# Altium schematic symbol library STMicroelectronics STM32 F1.SchLib: 243 symbols (part 17 of 18)
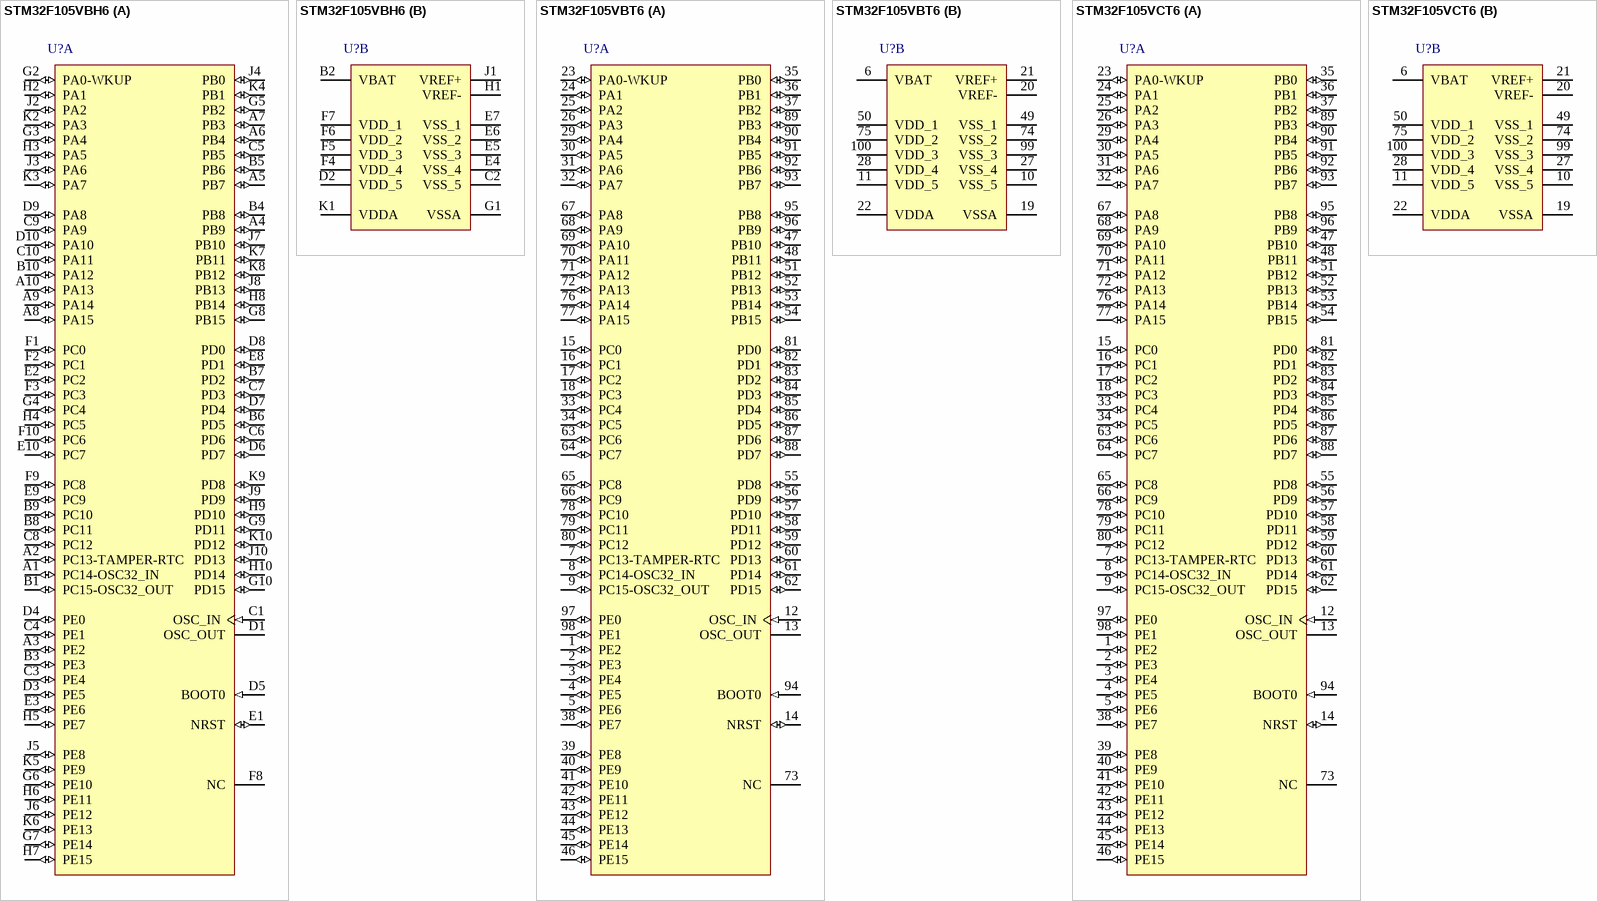
[diagram p58: symbols STM32F105VBH6 to STM32F105VCT6]

## STM32F105VBH6
designator U?
ARM Cortex-M3 32-bit MCU, 128 KB Flash, 64 KB Internal RAM, 80 I/Os, 100-pin LFBGA, -40 to 85 degC, Tray
footprint STM-LFBGA100 (BGA, 100-Balls, Body 10x10mm, Pitch 0.8mm)
part A pins: A1 PC14-OSC32_IN (io) "PC14-OSC32_IN/PC14/OSC32_IN", A2 PC13-TAMPER-RTC (io) "PC13-TAMPER-RTC/PC13/TAMPER-RTC", A3 PE2 (io) "PE2/TRACECK", A4 PB9 (io) "PB9/TIM4_CH4/I2C1_SDA/CAN1_TX", A5 PB7 (io) "PB7/I2C1_SDA/TIM4_CH2/USART1_RX", A6 PB4 (io) "PB4/NJTRST/SPI3_MISO/TIM3_CH1/SPI1_MISO", A7 PB3 (io) "PB3/JTDO/SPI3_SCK/I2S3_CK/TRACESWO/TIM2_CH2/SPI1_SCK", A8 PA15 (io) "PA15/JTDI/SPI3_NSS/I2S3_WS/TIM2_CH1_ETR/SPI1_NSS", A9 PA14 (io) "PA14/JTCK-SWCLK", A10 PA13 (io) "PA13/JTMS-SWDIO", B1 PC15-OSC32_OUT (io) "PC15-OSC32_OUT/PC15/OSC32_OUT", B3 PE3 (io) "PE3/TRACED0", B4 PB8 (io) "PB8/TIM4_CH3/ETH_MII_TXD3/I2C1_SCL/CAN1_RX", B5 PB6 (io) "PB6/I2C1_SCL/TIM4_CH1/USART1_TX/CAN2_TX", B6 PD5 (io) "PD5/USART2_TX", B7 PD2 (io) "PD2/TIM3_ETR/UART5_RX", B8 PC11 (io) "PC11/UART4_RX/USART3_RX/SPI3_MISO", B9 PC10 (io) "PC10/UART4_TX/USART3_TX/SPI3_SCK/I2S3_CK", B10 PA12 (io) "PA12/USART1_RTS/OTG_FS_DP/CAN1_TX/TIM1_ETR", C1 OSC_IN (in), C3 PE4 (io) "PE4/TRACED1", C4 PE1 (io), C5 PB5 (io) "PB5/I2C1_SMBA/SPI3_MOSI/ETH_MII_PPS_OUT/I2S3_SD/ETH_RMII_PPS_OUT/TIM3_CH2/SPI1_MOSI/CAN2_RX", C6 PD6 (io) "PD6/USART2_RX", C7 PD3 (io) "PD3/USART2_CTS", C8 PC12 (io) "PC12/UART5_TX/USART3_CK/SPI3_MOSI/I2S3_SD", C9 PA9 (io) "PA9/USART1_TX/TIM1_CH2/OTG_FS_VBUS", C10 PA11 (io) "PA11/USART1_CTS/CAN1_RX/TIM1_CH4/OTG_FS_DM", D1 OSC_OUT, D3 PE5 (io) "PE5/TRACED2", D4 PE0 (io) "PE0/TIM4_ETR", D5 BOOT0 (in), D6 PD7 (io) "PD7/USART2_CK", D7 PD4 (io) "PD4/USART2_RTS", D8 PD0 (io) "PD0/OSC_IN/CAN1_RX", D9 PA8 (io) "PA8/USART1_CK/OTG_FS_SOF/TIM1_CH1/MCO", D10 PA10 (io) "PA10/USART1_RX/TIM1_CH3/OTG_FS_ID", E1 NRST (io), E2 PC2 (io) "PC2/ADC12_IN12/ETH_MII_TXD2", E3 PE6 (io) "PE6/TRACED3", E8 PD1 (io) "PD1/OSC_OUT/CAN1_TX", E9 PC9 (io) "PC9/TIM3_CH4", E10 PC7 (io) "PC7/I2S3_MCK/TIM3_CH2", F1 PC0 (io) "PC0/ADC12_IN10", F2 PC1 (io) "PC1/ADC12_IN11/ETH_MII_MDC/ETH_RMII_MDC", F3 PC3 (io) "PC3/ADC12_IN13/ETH_MII_TX_CLK", F8 NC, F9 PC8 (io) "PC8/TIM3_CH3", F10 PC6 (io) "PC6/I2S2_MCK/TIM3_CH1", G2 PA0-WKUP (io) "PA0-WKUP/PA0/WKUP/USART2_CTS/ADC12_IN0/TIM2_CH1_ETR/TIM5_CH1/ETH_MII_CRS_WKUP", G3 PA4 (io) "PA4/SPI1_NSS/DAC_OUT1/USART2_CK/ADC12_IN4/SPI3_NSS/I2S3_WS", G4 PC4 (io) "PC4/ADC12_IN14/ETH_MII_RXD0/ETH_RMII_RXD0", G5 PB2 (io) "PB2/BOOT1", G6 PE10 (io) "PE10/TIM1_CH2N", G7 PE14 (io) "PE14/TIM1_CH4", G8 PB15 (io) "PB15/SPI2_MOSI/I2S2_SD/TIM1_CH3N", G9 PD11 (io) "PD11/USART3_CTS/ETH_MII_RXD2", G10 PD15 (io) "PD15/TIM4_CH4", H2 PA1 (io) "PA1/USART2_RTS/ADC12_IN1/TIM5_CH2/TIM2_CH2/ETH_MII_RX_CLK/ETH_RMII_REF_CLK", H3 PA5 (io) "PA5/SPI1_SCK/DAC_OUT2/ADC12_IN5", H4 PC5 (io) "PC5/ADC12_IN15/ETH_MII_RXD1/ETH_RMII_RXD1", H5 PE7 (io) "PE7/TIM1_ETR", H6 PE11 (io) "PE11/TIM1_CH2", H7 PE15 (io) "PE15/TIM1_BKIN", H8 PB14 (io) "PB14/SPI2_MISO/TIM1_CH2N/USART3_RTS", H9 PD10 (io) "PD10/USART3_CK/ETH_MII_RXD1/ETH_RMII_RXD1", H10 PD14 (io) "PD14/TIM4_CH3", J2 PA2 (io) "PA2/USART2_TX/TIM5_CH3/ADC12_IN2/TIM2_CH3/ETH_MII_MDIO/ETH_RMII_MDIO", J3 PA6 (io) "PA6/SPI1_MISO/ADC12_IN6/TIM3_CH1/TIM1_BKIN", J4 PB0 (io) "PB0/ADC12_IN8/TIM3_CH3/ETH_MII_RXD2/TIM1_CH2N", J5 PE8 (io) "PE8/TIM1_CH1N", J6 PE12 (io) "PE12/TIM1_CH3N", J7 PB10 (io) "PB10/I2C2_SCL/USART3_TX/ETH_MII_RX_ER/TIM2_CH3", J8 PB13 (io) "PB13/SPI2_SCK/I2S2_CK/USART3_CTS/TIM1_CH1N/CAN2_TX/ETH_MII_TXD1/ETH_RMII_TXD1", J9 PD9 (io) "PD9/USART3_RX/ETH_MII_RXD0/ETH_RMII_RXD0", J10 PD13 (io) "PD13/TIM4_CH2", K2 PA3 (io) "PA3/USART2_RX/TIM5_CH4/ADC12_IN3/TIM2_CH4/ETH_MII_COL", K3 PA7 (io) "PA7/SPI1_MOSI/ADC12_IN7/TIM3_CH2/ETH_MII_RX_DV/ETH_RMII_CRS_DV/TIM1_CH1N", K4 PB1 (io) "PB1/ADC12_IN9/TIM3_CH4/ETH_MII_RXD3/TIM1_CH3N", K5 PE9 (io) "PE9/TIM1_CH1", K6 PE13 (io) "PE13/TIM1_CH3", K7 PB11 (io) "PB11/I2C2_SDA/USART3_RX/ETH_MII_TX_EN/ETH_RMII_TX_EN/TIM2_CH4", K8 PB12 (io) "PB12/SPI2_NSS/I2S2_WS/I2C2_SMBA/USART3_CK/TIM1_BKIN/CAN2_RX/ETH_MII_TXD0/ETH_RMII_TXD0", K9 PD8 (io) "PD8/USART3_TX/ETH_MII_RX_DV/ETH_RMII_CRS_DV", K10 PD12 (io) "PD12/TIM4_CH1/USART3_RTS/ETH_MII_RXD3"
part B pins: B2 VBAT (power), C2 VSS_5 (power), D2 VDD_5 (power), E4 VSS_4 (power), E5 VSS_3 (power), E6 VSS_2 (power), E7 VSS_1 (power), F4 VDD_4 (power), F5 VDD_3 (power), F6 VDD_2 (power), F7 VDD_1 (power), G1 VSSA (power), H1 VREF- (power), J1 VREF+ (power), K1 VDDA (power)

## STM32F105VBT6
designator U?
ARM Cortex-M3 32-bit MCU, 128 KB Flash, 64 KB Internal RAM, 80 I/Os, 100-pin LQFP, -40 to 85 degC, Tray
footprint STM-LQFP100_N (Thin QFP, 100-Leads, Body 14x14mm, Pitch 0.5mm, IPC Medium Density)
footprint STM-LQFP100_L (Thin QFP, 100-Leads, Body 14x14mm, Pitch 0.5mm, IPC High Density)
footprint STM-LQFP100_M (Thin QFP, 100-Leads, Body 14x14mm, Pitch 0.5mm, IPC Low Density)
footprint STM-LQFP100_V (Thin QFP, 100-Leads, Body 14x14mm, Pitch 0.5mm, ST Recommended)
part A pins: 1 PE2 (io) "PE2/TRACECK", 2 PE3 (io) "PE3/TRACED0", 3 PE4 (io) "PE4/TRACED1", 4 PE5 (io) "PE5/TRACED2", 5 PE6 (io) "PE6/TRACED3", 7 PC13-TAMPER-RTC (io) "PC13-TAMPER-RTC/PC13/TAMPER-RTC", 8 PC14-OSC32_IN (io) "PC14-OSC32_IN/PC14/OSC32_IN", 9 PC15-OSC32_OUT (io) "PC15-OSC32_OUT/PC15/OSC32_OUT", 12 OSC_IN (in), 13 OSC_OUT, 14 NRST (io), 15 PC0 (io) "PC0/ADC12_IN10", 16 PC1 (io) "PC1/ADC12_IN11/ETH_MII_MDC/ETH_RMII_MDC", 17 PC2 (io) "PC2/ADC12_IN12/ETH_MII_TXD2", 18 PC3 (io) "PC3/ADC12_IN13/ETH_MII_TX_CLK", 23 PA0-WKUP (io) "PA0-WKUP/PA0/WKUP/USART2_CTS/ADC12_IN0/TIM2_CH1_ETR/TIM5_CH1/ETH_MII_CRS_WKUP", 24 PA1 (io) "PA1/USART2_RTS/ADC12_IN1/TIM5_CH2/TIM2_CH2/ETH_MII_RX_CLK/ETH_RMII_REF_CLK", 25 PA2 (io) "PA2/USART2_TX/TIM5_CH3/ADC12_IN2/TIM2_CH3/ETH_MII_MDIO/ETH_RMII_MDIO", 26 PA3 (io) "PA3/USART2_RX/TIM5_CH4/ADC12_IN3/TIM2_CH4/ETH_MII_COL", 29 PA4 (io) "PA4/SPI1_NSS/DAC_OUT1/USART2_CK/ADC12_IN4/SPI3_NSS/I2S3_WS", 30 PA5 (io) "PA5/SPI1_SCK/DAC_OUT2/ADC12_IN5", 31 PA6 (io) "PA6/SPI1_MISO/ADC12_IN6/TIM3_CH1/TIM1_BKIN", 32 PA7 (io) "PA7/SPI1_MOSI/ADC12_IN7/TIM3_CH2/ETH_MII_RX_DV/ETH_RMII_CRS_DV/TIM1_CH1N", 33 PC4 (io) "PC4/ADC12_IN14/ETH_MII_RXD0/ETH_RMII_RXD0", 34 PC5 (io) "PC5/ADC12_IN15/ETH_MII_RXD1/ETH_RMII_RXD1", 35 PB0 (io) "PB0/ADC12_IN8/TIM3_CH3/ETH_MII_RXD2/TIM1_CH2N", 36 PB1 (io) "PB1/ADC12_IN9/TIM3_CH4/ETH_MII_RXD3/TIM1_CH3N", 37 PB2 (io) "PB2/BOOT1", 38 PE7 (io) "PE7/TIM1_ETR", 39 PE8 (io) "PE8/TIM1_CH1N", 40 PE9 (io) "PE9/TIM1_CH1", 41 PE10 (io) "PE10/TIM1_CH2N", 42 PE11 (io) "PE11/TIM1_CH2", 43 PE12 (io) "PE12/TIM1_CH3N", 44 PE13 (io) "PE13/TIM1_CH3", 45 PE14 (io) "PE14/TIM1_CH4", 46 PE15 (io) "PE15/TIM1_BKIN", 47 PB10 (io) "PB10/I2C2_SCL/USART3_TX/ETH_MII_RX_ER/TIM2_CH3", 48 PB11 (io) "PB11/I2C2_SDA/USART3_RX/ETH_MII_TX_EN/ETH_RMII_TX_EN/TIM2_CH4", 51 PB12 (io) "PB12/SPI2_NSS/I2S2_WS/I2C2_SMBA/USART3_CK/TIM1_BKIN/CAN2_RX/ETH_MII_TXD0/ETH_RMII_TXD0", 52 PB13 (io) "PB13/SPI2_SCK/I2S2_CK/USART3_CTS/TIM1_CH1N/CAN2_TX/ETH_MII_TXD1/ETH_RMII_TXD1", 53 PB14 (io) "PB14/SPI2_MISO/TIM1_CH2N/USART3_RTS", 54 PB15 (io) "PB15/SPI2_MOSI/I2S2_SD/TIM1_CH3N", 55 PD8 (io) "PD8/USART3_TX/ETH_MII_RX_DV/ETH_RMII_CRS_DV", 56 PD9 (io) "PD9/USART3_RX/ETH_MII_RXD0/ETH_RMII_RXD0", 57 PD10 (io) "PD10/USART3_CK/ETH_MII_RXD1/ETH_RMII_RXD1", 58 PD11 (io) "PD11/USART3_CTS/ETH_MII_RXD2", 59 PD12 (io) "PD12/TIM4_CH1/USART3_RTS/ETH_MII_RXD3", 60 PD13 (io) "PD13/TIM4_CH2", 61 PD14 (io) "PD14/TIM4_CH3", 62 PD15 (io) "PD15/TIM4_CH4", 63 PC6 (io) "PC6/I2S2_MCK/TIM3_CH1", 64 PC7 (io) "PC7/I2S3_MCK/TIM3_CH2", 65 PC8 (io) "PC8/TIM3_CH3", 66 PC9 (io) "PC9/TIM3_CH4", 67 PA8 (io) "PA8/USART1_CK/OTG_FS_SOF/TIM1_CH1/MCO", 68 PA9 (io) "PA9/USART1_TX/TIM1_CH2/OTG_FS_VBUS", 69 PA10 (io) "PA10/USART1_RX/TIM1_CH3/OTG_FS_ID", 70 PA11 (io) "PA11/USART1_CTS/CAN1_RX/TIM1_CH4/OTG_FS_DM", 71 PA12 (io) "PA12/USART1_RTS/OTG_FS_DP/CAN1_TX/TIM1_ETR", 72 PA13 (io) "PA13/JTMS-SWDIO", 73 NC, 76 PA14 (io) "PA14/JTCK-SWCLK", 77 PA15 (io) "PA15/JTDI/SPI3_NSS/I2S3_WS/TIM2_CH1_ETR/SPI1_NSS", 78 PC10 (io) "PC10/UART4_TX/USART3_TX/SPI3_SCK/I2S3_CK", 79 PC11 (io) "PC11/UART4_RX/USART3_RX/SPI3_MISO", 80 PC12 (io) "PC12/UART5_TX/USART3_CK/SPI3_MOSI/I2S3_SD", 81 PD0 (io) "PD0/OSC_IN/CAN1_RX", 82 PD1 (io) "PD1/OSC_OUT/CAN1_TX", 83 PD2 (io) "PD2/TIM3_ETR/UART5_RX", 84 PD3 (io) "PD3/USART2_CTS", 85 PD4 (io) "PD4/USART2_RTS", 86 PD5 (io) "PD5/USART2_TX", 87 PD6 (io) "PD6/USART2_RX", 88 PD7 (io) "PD7/USART2_CK", 89 PB3 (io) "PB3/JTDO/SPI3_SCK/I2S3_CK/TRACESWO/TIM2_CH2/SPI1_SCK", 90 PB4 (io) "PB4/NJTRST/SPI3_MISO/TIM3_CH1/SPI1_MISO", 91 PB5 (io) "PB5/I2C1_SMBA/SPI3_MOSI/ETH_MII_PPS_OUT/I2S3_SD/ETH_RMII_PPS_OUT/TIM3_CH2/SPI1_MOSI/CAN2_RX", 92 PB6 (io) "PB6/I2C1_SCL/TIM4_CH1/USART1_TX/CAN2_TX", 93 PB7 (io) "PB7/I2C1_SDA/TIM4_CH2/USART1_RX", 94 BOOT0 (in), 95 PB8 (io) "PB8/TIM4_CH3/ETH_MII_TXD3/I2C1_SCL/CAN1_RX", 96 PB9 (io) "PB9/TIM4_CH4/I2C1_SDA/CAN1_TX", 97 PE0 (io) "PE0/TIM4_ETR", 98 PE1 (io)
part B pins: 6 VBAT (power), 10 VSS_5 (power), 11 VDD_5 (power), 19 VSSA (power), 20 VREF- (power), 21 VREF+ (power), 22 VDDA (power), 27 VSS_4 (power), 28 VDD_4 (power), 49 VSS_1 (power), 50 VDD_1 (power), 74 VSS_2 (power), 75 VDD_2 (power), 99 VSS_3 (power), 100 VDD_3 (power)

## STM32F105VCT6
designator U?
ARM Cortex-M3 32-bit MCU, 256 KB Flash, 64 KB Internal RAM, 80 I/Os, 100-pin LQFP, -40 to 85 degC, Tray
footprint STM-LQFP100_N (Thin QFP, 100-Leads, Body 14x14mm, Pitch 0.5mm, IPC Medium Density)
footprint STM-LQFP100_L (Thin QFP, 100-Leads, Body 14x14mm, Pitch 0.5mm, IPC High Density)
footprint STM-LQFP100_M (Thin QFP, 100-Leads, Body 14x14mm, Pitch 0.5mm, IPC Low Density)
footprint STM-LQFP100_V (Thin QFP, 100-Leads, Body 14x14mm, Pitch 0.5mm, ST Recommended)
part A pins: 1 PE2 (io) "PE2/TRACECK", 2 PE3 (io) "PE3/TRACED0", 3 PE4 (io) "PE4/TRACED1", 4 PE5 (io) "PE5/TRACED2", 5 PE6 (io) "PE6/TRACED3", 7 PC13-TAMPER-RTC (io) "PC13-TAMPER-RTC/PC13/TAMPER-RTC", 8 PC14-OSC32_IN (io) "PC14-OSC32_IN/PC14/OSC32_IN", 9 PC15-OSC32_OUT (io) "PC15-OSC32_OUT/PC15/OSC32_OUT", 12 OSC_IN (in), 13 OSC_OUT, 14 NRST (io), 15 PC0 (io) "PC0/ADC12_IN10", 16 PC1 (io) "PC1/ADC12_IN11/ETH_MII_MDC/ETH_RMII_MDC", 17 PC2 (io) "PC2/ADC12_IN12/ETH_MII_TXD2", 18 PC3 (io) "PC3/ADC12_IN13/ETH_MII_TX_CLK", 23 PA0-WKUP (io) "PA0-WKUP/PA0/WKUP/USART2_CTS/ADC12_IN0/TIM2_CH1_ETR/TIM5_CH1/ETH_MII_CRS_WKUP", 24 PA1 (io) "PA1/USART2_RTS/ADC12_IN1/TIM5_CH2/TIM2_CH2/ETH_MII_RX_CLK/ETH_RMII_REF_CLK", 25 PA2 (io) "PA2/USART2_TX/TIM5_CH3/ADC12_IN2/TIM2_CH3/ETH_MII_MDIO/ETH_RMII_MDIO", 26 PA3 (io) "PA3/USART2_RX/TIM5_CH4/ADC12_IN3/TIM2_CH4/ETH_MII_COL", 29 PA4 (io) "PA4/SPI1_NSS/DAC_OUT1/USART2_CK/ADC12_IN4/SPI3_NSS/I2S3_WS", 30 PA5 (io) "PA5/SPI1_SCK/DAC_OUT2/ADC12_IN5", 31 PA6 (io) "PA6/SPI1_MISO/ADC12_IN6/TIM3_CH1/TIM1_BKIN", 32 PA7 (io) "PA7/SPI1_MOSI/ADC12_IN7/TIM3_CH2/ETH_MII_RX_DV/ETH_RMII_CRS_DV/TIM1_CH1N", 33 PC4 (io) "PC4/ADC12_IN14/ETH_MII_RXD0/ETH_RMII_RXD0", 34 PC5 (io) "PC5/ADC12_IN15/ETH_MII_RXD1/ETH_RMII_RXD1", 35 PB0 (io) "PB0/ADC12_IN8/TIM3_CH3/ETH_MII_RXD2/TIM1_CH2N", 36 PB1 (io) "PB1/ADC12_IN9/TIM3_CH4/ETH_MII_RXD3/TIM1_CH3N", 37 PB2 (io) "PB2/BOOT1", 38 PE7 (io) "PE7/TIM1_ETR", 39 PE8 (io) "PE8/TIM1_CH1N", 40 PE9 (io) "PE9/TIM1_CH1", 41 PE10 (io) "PE10/TIM1_CH2N", 42 PE11 (io) "PE11/TIM1_CH2", 43 PE12 (io) "PE12/TIM1_CH3N", 44 PE13 (io) "PE13/TIM1_CH3", 45 PE14 (io) "PE14/TIM1_CH4", 46 PE15 (io) "PE15/TIM1_BKIN", 47 PB10 (io) "PB10/I2C2_SCL/USART3_TX/ETH_MII_RX_ER/TIM2_CH3", 48 PB11 (io) "PB11/I2C2_SDA/USART3_RX/ETH_MII_TX_EN/ETH_RMII_TX_EN/TIM2_CH4", 51 PB12 (io) "PB12/SPI2_NSS/I2S2_WS/I2C2_SMBA/USART3_CK/TIM1_BKIN/CAN2_RX/ETH_MII_TXD0/ETH_RMII_TXD0", 52 PB13 (io) "PB13/SPI2_SCK/I2S2_CK/USART3_CTS/TIM1_CH1N/CAN2_TX/ETH_MII_TXD1/ETH_RMII_TXD1", 53 PB14 (io) "PB14/SPI2_MISO/TIM1_CH2N/USART3_RTS", 54 PB15 (io) "PB15/SPI2_MOSI/I2S2_SD/TIM1_CH3N", 55 PD8 (io) "PD8/USART3_TX/ETH_MII_RX_DV/ETH_RMII_CRS_DV", 56 PD9 (io) "PD9/USART3_RX/ETH_MII_RXD0/ETH_RMII_RXD0", 57 PD10 (io) "PD10/USART3_CK/ETH_MII_RXD1/ETH_RMII_RXD1", 58 PD11 (io) "PD11/USART3_CTS/ETH_MII_RXD2", 59 PD12 (io) "PD12/TIM4_CH1/USART3_RTS/ETH_MII_RXD3", 60 PD13 (io) "PD13/TIM4_CH2", 61 PD14 (io) "PD14/TIM4_CH3", 62 PD15 (io) "PD15/TIM4_CH4", 63 PC6 (io) "PC6/I2S2_MCK/TIM3_CH1", 64 PC7 (io) "PC7/I2S3_MCK/TIM3_CH2", 65 PC8 (io) "PC8/TIM3_CH3", 66 PC9 (io) "PC9/TIM3_CH4", 67 PA8 (io) "PA8/USART1_CK/OTG_FS_SOF/TIM1_CH1/MCO", 68 PA9 (io) "PA9/USART1_TX/TIM1_CH2/OTG_FS_VBUS", 69 PA10 (io) "PA10/USART1_RX/TIM1_CH3/OTG_FS_ID", 70 PA11 (io) "PA11/USART1_CTS/CAN1_RX/TIM1_CH4/OTG_FS_DM", 71 PA12 (io) "PA12/USART1_RTS/OTG_FS_DP/CAN1_TX/TIM1_ETR", 72 PA13 (io) "PA13/JTMS-SWDIO", 73 NC, 76 PA14 (io) "PA14/JTCK-SWCLK", 77 PA15 (io) "PA15/JTDI/SPI3_NSS/I2S3_WS/TIM2_CH1_ETR/SPI1_NSS", 78 PC10 (io) "PC10/UART4_TX/USART3_TX/SPI3_SCK/I2S3_CK", 79 PC11 (io) "PC11/UART4_RX/USART3_RX/SPI3_MISO", 80 PC12 (io) "PC12/UART5_TX/USART3_CK/SPI3_MOSI/I2S3_SD", 81 PD0 (io) "PD0/OSC_IN/CAN1_RX", 82 PD1 (io) "PD1/OSC_OUT/CAN1_TX", 83 PD2 (io) "PD2/TIM3_ETR/UART5_RX", 84 PD3 (io) "PD3/USART2_CTS", 85 PD4 (io) "PD4/USART2_RTS", 86 PD5 (io) "PD5/USART2_TX", 87 PD6 (io) "PD6/USART2_RX", 88 PD7 (io) "PD7/USART2_CK", 89 PB3 (io) "PB3/JTDO/SPI3_SCK/I2S3_CK/TRACESWO/TIM2_CH2/SPI1_SCK", 90 PB4 (io) "PB4/NJTRST/SPI3_MISO/TIM3_CH1/SPI1_MISO", 91 PB5 (io) "PB5/I2C1_SMBA/SPI3_MOSI/ETH_MII_PPS_OUT/I2S3_SD/ETH_RMII_PPS_OUT/TIM3_CH2/SPI1_MOSI/CAN2_RX", 92 PB6 (io) "PB6/I2C1_SCL/TIM4_CH1/USART1_TX/CAN2_TX", 93 PB7 (io) "PB7/I2C1_SDA/TIM4_CH2/USART1_RX", 94 BOOT0 (in), 95 PB8 (io) "PB8/TIM4_CH3/ETH_MII_TXD3/I2C1_SCL/CAN1_RX", 96 PB9 (io) "PB9/TIM4_CH4/I2C1_SDA/CAN1_TX", 97 PE0 (io) "PE0/TIM4_ETR", 98 PE1 (io)
part B pins: 6 VBAT (power), 10 VSS_5 (power), 11 VDD_5 (power), 19 VSSA (power), 20 VREF- (power), 21 VREF+ (power), 22 VDDA (power), 27 VSS_4 (power), 28 VDD_4 (power), 49 VSS_1 (power), 50 VDD_1 (power), 74 VSS_2 (power), 75 VDD_2 (power), 99 VSS_3 (power), 100 VDD_3 (power)

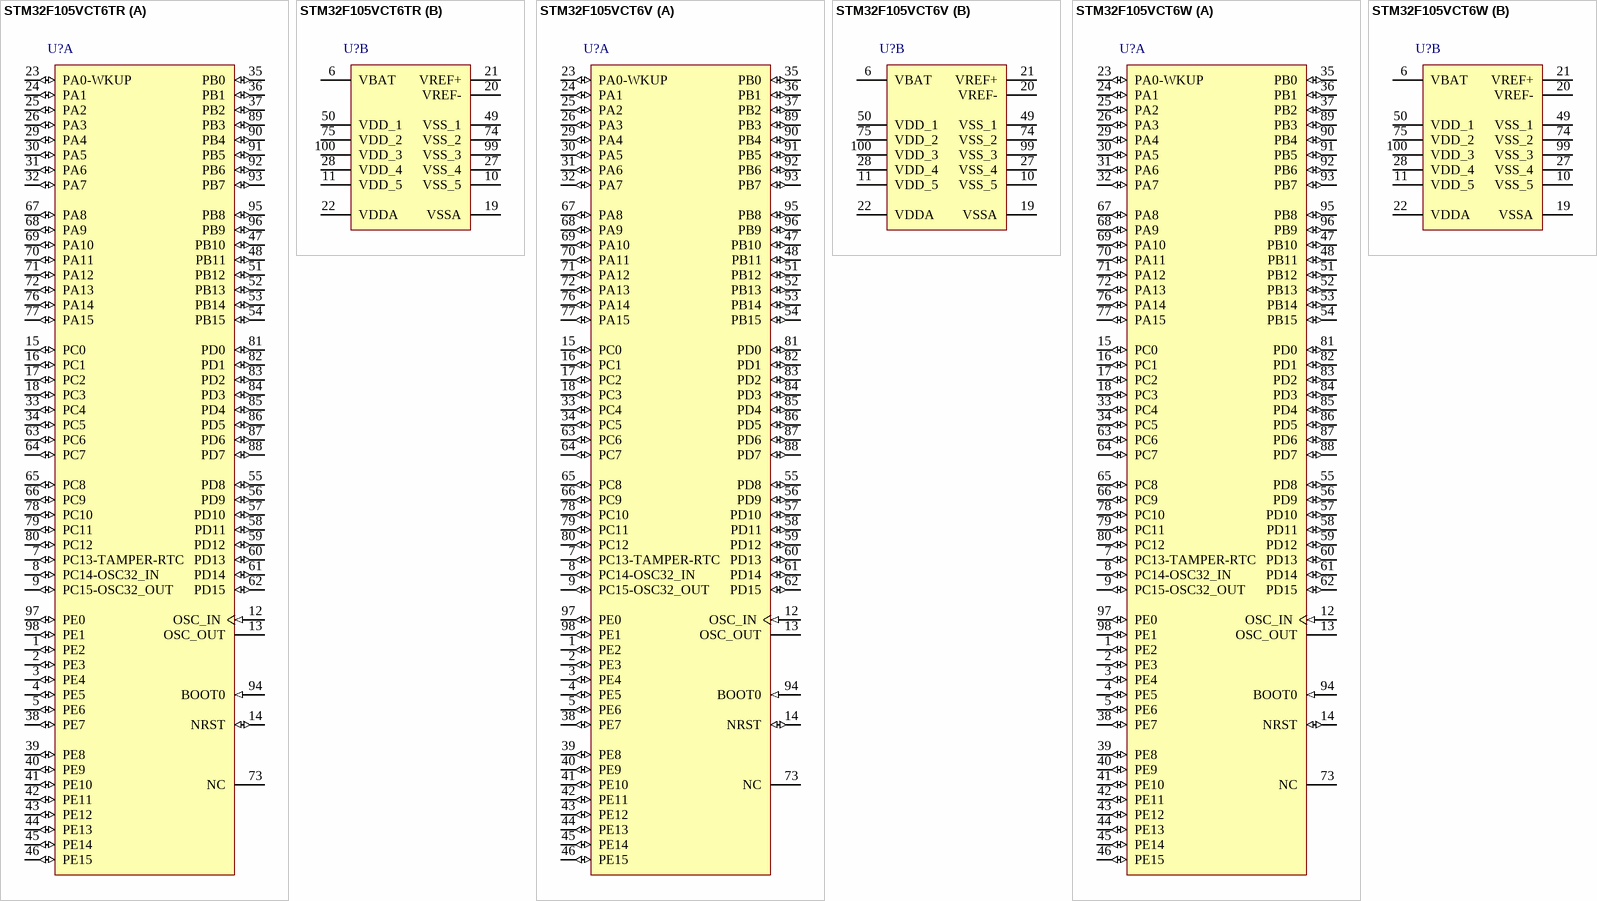
[diagram p40: symbols STM32F105VCT6TR to STM32F105VCT6W]

## STM32F105VCT6TR
designator U?
ARM Cortex-M3 32-bit MCU, 256 KB Flash, 64 KB Internal RAM, 80 I/Os, 100-pin LQFP, -40 to 85 degC, Tape and Reel
footprint STM-LQFP100_N (Thin QFP, 100-Leads, Body 14x14mm, Pitch 0.5mm, IPC Medium Density)
footprint STM-LQFP100_L (Thin QFP, 100-Leads, Body 14x14mm, Pitch 0.5mm, IPC High Density)
footprint STM-LQFP100_M (Thin QFP, 100-Leads, Body 14x14mm, Pitch 0.5mm, IPC Low Density)
footprint STM-LQFP100_V (Thin QFP, 100-Leads, Body 14x14mm, Pitch 0.5mm, ST Recommended)
part A pins: 1 PE2 (io) "PE2/TRACECK", 2 PE3 (io) "PE3/TRACED0", 3 PE4 (io) "PE4/TRACED1", 4 PE5 (io) "PE5/TRACED2", 5 PE6 (io) "PE6/TRACED3", 7 PC13-TAMPER-RTC (io) "PC13-TAMPER-RTC/PC13/TAMPER-RTC", 8 PC14-OSC32_IN (io) "PC14-OSC32_IN/PC14/OSC32_IN", 9 PC15-OSC32_OUT (io) "PC15-OSC32_OUT/PC15/OSC32_OUT", 12 OSC_IN (in), 13 OSC_OUT, 14 NRST (io), 15 PC0 (io) "PC0/ADC12_IN10", 16 PC1 (io) "PC1/ADC12_IN11/ETH_MII_MDC/ETH_RMII_MDC", 17 PC2 (io) "PC2/ADC12_IN12/ETH_MII_TXD2", 18 PC3 (io) "PC3/ADC12_IN13/ETH_MII_TX_CLK", 23 PA0-WKUP (io) "PA0-WKUP/PA0/WKUP/USART2_CTS/ADC12_IN0/TIM2_CH1_ETR/TIM5_CH1/ETH_MII_CRS_WKUP", 24 PA1 (io) "PA1/USART2_RTS/ADC12_IN1/TIM5_CH2/TIM2_CH2/ETH_MII_RX_CLK/ETH_RMII_REF_CLK", 25 PA2 (io) "PA2/USART2_TX/TIM5_CH3/ADC12_IN2/TIM2_CH3/ETH_MII_MDIO/ETH_RMII_MDIO", 26 PA3 (io) "PA3/USART2_RX/TIM5_CH4/ADC12_IN3/TIM2_CH4/ETH_MII_COL", 29 PA4 (io) "PA4/SPI1_NSS/DAC_OUT1/USART2_CK/ADC12_IN4/SPI3_NSS/I2S3_WS", 30 PA5 (io) "PA5/SPI1_SCK/DAC_OUT2/ADC12_IN5", 31 PA6 (io) "PA6/SPI1_MISO/ADC12_IN6/TIM3_CH1/TIM1_BKIN", 32 PA7 (io) "PA7/SPI1_MOSI/ADC12_IN7/TIM3_CH2/ETH_MII_RX_DV/ETH_RMII_CRS_DV/TIM1_CH1N", 33 PC4 (io) "PC4/ADC12_IN14/ETH_MII_RXD0/ETH_RMII_RXD0", 34 PC5 (io) "PC5/ADC12_IN15/ETH_MII_RXD1/ETH_RMII_RXD1", 35 PB0 (io) "PB0/ADC12_IN8/TIM3_CH3/ETH_MII_RXD2/TIM1_CH2N", 36 PB1 (io) "PB1/ADC12_IN9/TIM3_CH4/ETH_MII_RXD3/TIM1_CH3N", 37 PB2 (io) "PB2/BOOT1", 38 PE7 (io) "PE7/TIM1_ETR", 39 PE8 (io) "PE8/TIM1_CH1N", 40 PE9 (io) "PE9/TIM1_CH1", 41 PE10 (io) "PE10/TIM1_CH2N", 42 PE11 (io) "PE11/TIM1_CH2", 43 PE12 (io) "PE12/TIM1_CH3N", 44 PE13 (io) "PE13/TIM1_CH3", 45 PE14 (io) "PE14/TIM1_CH4", 46 PE15 (io) "PE15/TIM1_BKIN", 47 PB10 (io) "PB10/I2C2_SCL/USART3_TX/ETH_MII_RX_ER/TIM2_CH3", 48 PB11 (io) "PB11/I2C2_SDA/USART3_RX/ETH_MII_TX_EN/ETH_RMII_TX_EN/TIM2_CH4", 51 PB12 (io) "PB12/SPI2_NSS/I2S2_WS/I2C2_SMBA/USART3_CK/TIM1_BKIN/CAN2_RX/ETH_MII_TXD0/ETH_RMII_TXD0", 52 PB13 (io) "PB13/SPI2_SCK/I2S2_CK/USART3_CTS/TIM1_CH1N/CAN2_TX/ETH_MII_TXD1/ETH_RMII_TXD1", 53 PB14 (io) "PB14/SPI2_MISO/TIM1_CH2N/USART3_RTS", 54 PB15 (io) "PB15/SPI2_MOSI/I2S2_SD/TIM1_CH3N", 55 PD8 (io) "PD8/USART3_TX/ETH_MII_RX_DV/ETH_RMII_CRS_DV", 56 PD9 (io) "PD9/USART3_RX/ETH_MII_RXD0/ETH_RMII_RXD0", 57 PD10 (io) "PD10/USART3_CK/ETH_MII_RXD1/ETH_RMII_RXD1", 58 PD11 (io) "PD11/USART3_CTS/ETH_MII_RXD2", 59 PD12 (io) "PD12/TIM4_CH1/USART3_RTS/ETH_MII_RXD3", 60 PD13 (io) "PD13/TIM4_CH2", 61 PD14 (io) "PD14/TIM4_CH3", 62 PD15 (io) "PD15/TIM4_CH4", 63 PC6 (io) "PC6/I2S2_MCK/TIM3_CH1", 64 PC7 (io) "PC7/I2S3_MCK/TIM3_CH2", 65 PC8 (io) "PC8/TIM3_CH3", 66 PC9 (io) "PC9/TIM3_CH4", 67 PA8 (io) "PA8/USART1_CK/OTG_FS_SOF/TIM1_CH1/MCO", 68 PA9 (io) "PA9/USART1_TX/TIM1_CH2/OTG_FS_VBUS", 69 PA10 (io) "PA10/USART1_RX/TIM1_CH3/OTG_FS_ID", 70 PA11 (io) "PA11/USART1_CTS/CAN1_RX/TIM1_CH4/OTG_FS_DM", 71 PA12 (io) "PA12/USART1_RTS/OTG_FS_DP/CAN1_TX/TIM1_ETR", 72 PA13 (io) "PA13/JTMS-SWDIO", 73 NC, 76 PA14 (io) "PA14/JTCK-SWCLK", 77 PA15 (io) "PA15/JTDI/SPI3_NSS/I2S3_WS/TIM2_CH1_ETR/SPI1_NSS", 78 PC10 (io) "PC10/UART4_TX/USART3_TX/SPI3_SCK/I2S3_CK", 79 PC11 (io) "PC11/UART4_RX/USART3_RX/SPI3_MISO", 80 PC12 (io) "PC12/UART5_TX/USART3_CK/SPI3_MOSI/I2S3_SD", 81 PD0 (io) "PD0/OSC_IN/CAN1_RX", 82 PD1 (io) "PD1/OSC_OUT/CAN1_TX", 83 PD2 (io) "PD2/TIM3_ETR/UART5_RX", 84 PD3 (io) "PD3/USART2_CTS", 85 PD4 (io) "PD4/USART2_RTS", 86 PD5 (io) "PD5/USART2_TX", 87 PD6 (io) "PD6/USART2_RX", 88 PD7 (io) "PD7/USART2_CK", 89 PB3 (io) "PB3/JTDO/SPI3_SCK/I2S3_CK/TRACESWO/TIM2_CH2/SPI1_SCK", 90 PB4 (io) "PB4/NJTRST/SPI3_MISO/TIM3_CH1/SPI1_MISO", 91 PB5 (io) "PB5/I2C1_SMBA/SPI3_MOSI/ETH_MII_PPS_OUT/I2S3_SD/ETH_RMII_PPS_OUT/TIM3_CH2/SPI1_MOSI/CAN2_RX", 92 PB6 (io) "PB6/I2C1_SCL/TIM4_CH1/USART1_TX/CAN2_TX", 93 PB7 (io) "PB7/I2C1_SDA/TIM4_CH2/USART1_RX", 94 BOOT0 (in), 95 PB8 (io) "PB8/TIM4_CH3/ETH_MII_TXD3/I2C1_SCL/CAN1_RX", 96 PB9 (io) "PB9/TIM4_CH4/I2C1_SDA/CAN1_TX", 97 PE0 (io) "PE0/TIM4_ETR", 98 PE1 (io)
part B pins: 6 VBAT (power), 10 VSS_5 (power), 11 VDD_5 (power), 19 VSSA (power), 20 VREF- (power), 21 VREF+ (power), 22 VDDA (power), 27 VSS_4 (power), 28 VDD_4 (power), 49 VSS_1 (power), 50 VDD_1 (power), 74 VSS_2 (power), 75 VDD_2 (power), 99 VSS_3 (power), 100 VDD_3 (power)

## STM32F105VCT6V
designator U?
ARM Cortex-M3 32-bit MCU, 256 KB Flash, 64 KB Internal RAM, 80 I/Os, 100-pin LQFP, -40 to 85 degC, Tray
footprint STM-LQFP100_N (Thin QFP, 100-Leads, Body 14x14mm, Pitch 0.5mm, IPC Medium Density)
footprint STM-LQFP100_L (Thin QFP, 100-Leads, Body 14x14mm, Pitch 0.5mm, IPC High Density)
footprint STM-LQFP100_M (Thin QFP, 100-Leads, Body 14x14mm, Pitch 0.5mm, IPC Low Density)
footprint STM-LQFP100_V (Thin QFP, 100-Leads, Body 14x14mm, Pitch 0.5mm, ST Recommended)
part A pins: 1 PE2 (io) "PE2/TRACECK", 2 PE3 (io) "PE3/TRACED0", 3 PE4 (io) "PE4/TRACED1", 4 PE5 (io) "PE5/TRACED2", 5 PE6 (io) "PE6/TRACED3", 7 PC13-TAMPER-RTC (io) "PC13-TAMPER-RTC/PC13/TAMPER-RTC", 8 PC14-OSC32_IN (io) "PC14-OSC32_IN/PC14/OSC32_IN", 9 PC15-OSC32_OUT (io) "PC15-OSC32_OUT/PC15/OSC32_OUT", 12 OSC_IN (in), 13 OSC_OUT, 14 NRST (io), 15 PC0 (io) "PC0/ADC12_IN10", 16 PC1 (io) "PC1/ADC12_IN11/ETH_MII_MDC/ETH_RMII_MDC", 17 PC2 (io) "PC2/ADC12_IN12/ETH_MII_TXD2", 18 PC3 (io) "PC3/ADC12_IN13/ETH_MII_TX_CLK", 23 PA0-WKUP (io) "PA0-WKUP/PA0/WKUP/USART2_CTS/ADC12_IN0/TIM2_CH1_ETR/TIM5_CH1/ETH_MII_CRS_WKUP", 24 PA1 (io) "PA1/USART2_RTS/ADC12_IN1/TIM5_CH2/TIM2_CH2/ETH_MII_RX_CLK/ETH_RMII_REF_CLK", 25 PA2 (io) "PA2/USART2_TX/TIM5_CH3/ADC12_IN2/TIM2_CH3/ETH_MII_MDIO/ETH_RMII_MDIO", 26 PA3 (io) "PA3/USART2_RX/TIM5_CH4/ADC12_IN3/TIM2_CH4/ETH_MII_COL", 29 PA4 (io) "PA4/SPI1_NSS/DAC_OUT1/USART2_CK/ADC12_IN4/SPI3_NSS/I2S3_WS", 30 PA5 (io) "PA5/SPI1_SCK/DAC_OUT2/ADC12_IN5", 31 PA6 (io) "PA6/SPI1_MISO/ADC12_IN6/TIM3_CH1/TIM1_BKIN", 32 PA7 (io) "PA7/SPI1_MOSI/ADC12_IN7/TIM3_CH2/ETH_MII_RX_DV/ETH_RMII_CRS_DV/TIM1_CH1N", 33 PC4 (io) "PC4/ADC12_IN14/ETH_MII_RXD0/ETH_RMII_RXD0", 34 PC5 (io) "PC5/ADC12_IN15/ETH_MII_RXD1/ETH_RMII_RXD1", 35 PB0 (io) "PB0/ADC12_IN8/TIM3_CH3/ETH_MII_RXD2/TIM1_CH2N", 36 PB1 (io) "PB1/ADC12_IN9/TIM3_CH4/ETH_MII_RXD3/TIM1_CH3N", 37 PB2 (io) "PB2/BOOT1", 38 PE7 (io) "PE7/TIM1_ETR", 39 PE8 (io) "PE8/TIM1_CH1N", 40 PE9 (io) "PE9/TIM1_CH1", 41 PE10 (io) "PE10/TIM1_CH2N", 42 PE11 (io) "PE11/TIM1_CH2", 43 PE12 (io) "PE12/TIM1_CH3N", 44 PE13 (io) "PE13/TIM1_CH3", 45 PE14 (io) "PE14/TIM1_CH4", 46 PE15 (io) "PE15/TIM1_BKIN", 47 PB10 (io) "PB10/I2C2_SCL/USART3_TX/ETH_MII_RX_ER/TIM2_CH3", 48 PB11 (io) "PB11/I2C2_SDA/USART3_RX/ETH_MII_TX_EN/ETH_RMII_TX_EN/TIM2_CH4", 51 PB12 (io) "PB12/SPI2_NSS/I2S2_WS/I2C2_SMBA/USART3_CK/TIM1_BKIN/CAN2_RX/ETH_MII_TXD0/ETH_RMII_TXD0", 52 PB13 (io) "PB13/SPI2_SCK/I2S2_CK/USART3_CTS/TIM1_CH1N/CAN2_TX/ETH_MII_TXD1/ETH_RMII_TXD1", 53 PB14 (io) "PB14/SPI2_MISO/TIM1_CH2N/USART3_RTS", 54 PB15 (io) "PB15/SPI2_MOSI/I2S2_SD/TIM1_CH3N", 55 PD8 (io) "PD8/USART3_TX/ETH_MII_RX_DV/ETH_RMII_CRS_DV", 56 PD9 (io) "PD9/USART3_RX/ETH_MII_RXD0/ETH_RMII_RXD0", 57 PD10 (io) "PD10/USART3_CK/ETH_MII_RXD1/ETH_RMII_RXD1", 58 PD11 (io) "PD11/USART3_CTS/ETH_MII_RXD2", 59 PD12 (io) "PD12/TIM4_CH1/USART3_RTS/ETH_MII_RXD3", 60 PD13 (io) "PD13/TIM4_CH2", 61 PD14 (io) "PD14/TIM4_CH3", 62 PD15 (io) "PD15/TIM4_CH4", 63 PC6 (io) "PC6/I2S2_MCK/TIM3_CH1", 64 PC7 (io) "PC7/I2S3_MCK/TIM3_CH2", 65 PC8 (io) "PC8/TIM3_CH3", 66 PC9 (io) "PC9/TIM3_CH4", 67 PA8 (io) "PA8/USART1_CK/OTG_FS_SOF/TIM1_CH1/MCO", 68 PA9 (io) "PA9/USART1_TX/TIM1_CH2/OTG_FS_VBUS", 69 PA10 (io) "PA10/USART1_RX/TIM1_CH3/OTG_FS_ID", 70 PA11 (io) "PA11/USART1_CTS/CAN1_RX/TIM1_CH4/OTG_FS_DM", 71 PA12 (io) "PA12/USART1_RTS/OTG_FS_DP/CAN1_TX/TIM1_ETR", 72 PA13 (io) "PA13/JTMS-SWDIO", 73 NC, 76 PA14 (io) "PA14/JTCK-SWCLK", 77 PA15 (io) "PA15/JTDI/SPI3_NSS/I2S3_WS/TIM2_CH1_ETR/SPI1_NSS", 78 PC10 (io) "PC10/UART4_TX/USART3_TX/SPI3_SCK/I2S3_CK", 79 PC11 (io) "PC11/UART4_RX/USART3_RX/SPI3_MISO", 80 PC12 (io) "PC12/UART5_TX/USART3_CK/SPI3_MOSI/I2S3_SD", 81 PD0 (io) "PD0/OSC_IN/CAN1_RX", 82 PD1 (io) "PD1/OSC_OUT/CAN1_TX", 83 PD2 (io) "PD2/TIM3_ETR/UART5_RX", 84 PD3 (io) "PD3/USART2_CTS", 85 PD4 (io) "PD4/USART2_RTS", 86 PD5 (io) "PD5/USART2_TX", 87 PD6 (io) "PD6/USART2_RX", 88 PD7 (io) "PD7/USART2_CK", 89 PB3 (io) "PB3/JTDO/SPI3_SCK/I2S3_CK/TRACESWO/TIM2_CH2/SPI1_SCK", 90 PB4 (io) "PB4/NJTRST/SPI3_MISO/TIM3_CH1/SPI1_MISO", 91 PB5 (io) "PB5/I2C1_SMBA/SPI3_MOSI/ETH_MII_PPS_OUT/I2S3_SD/ETH_RMII_PPS_OUT/TIM3_CH2/SPI1_MOSI/CAN2_RX", 92 PB6 (io) "PB6/I2C1_SCL/TIM4_CH1/USART1_TX/CAN2_TX", 93 PB7 (io) "PB7/I2C1_SDA/TIM4_CH2/USART1_RX", 94 BOOT0 (in), 95 PB8 (io) "PB8/TIM4_CH3/ETH_MII_TXD3/I2C1_SCL/CAN1_RX", 96 PB9 (io) "PB9/TIM4_CH4/I2C1_SDA/CAN1_TX", 97 PE0 (io) "PE0/TIM4_ETR", 98 PE1 (io)
part B pins: 6 VBAT (power), 10 VSS_5 (power), 11 VDD_5 (power), 19 VSSA (power), 20 VREF- (power), 21 VREF+ (power), 22 VDDA (power), 27 VSS_4 (power), 28 VDD_4 (power), 49 VSS_1 (power), 50 VDD_1 (power), 74 VSS_2 (power), 75 VDD_2 (power), 99 VSS_3 (power), 100 VDD_3 (power)

## STM32F105VCT6W
designator U?
ARM Cortex-M3 32-bit MCU, 256 KB Flash, 64 KB Internal RAM, 80 I/Os, 100-pin LQFP, -40 to 85 degC, Tray
footprint STM-LQFP100_N (Thin QFP, 100-Leads, Body 14x14mm, Pitch 0.5mm, IPC Medium Density)
footprint STM-LQFP100_L (Thin QFP, 100-Leads, Body 14x14mm, Pitch 0.5mm, IPC High Density)
footprint STM-LQFP100_M (Thin QFP, 100-Leads, Body 14x14mm, Pitch 0.5mm, IPC Low Density)
footprint STM-LQFP100_V (Thin QFP, 100-Leads, Body 14x14mm, Pitch 0.5mm, ST Recommended)
part A pins: 1 PE2 (io) "PE2/TRACECK", 2 PE3 (io) "PE3/TRACED0", 3 PE4 (io) "PE4/TRACED1", 4 PE5 (io) "PE5/TRACED2", 5 PE6 (io) "PE6/TRACED3", 7 PC13-TAMPER-RTC (io) "PC13-TAMPER-RTC/PC13/TAMPER-RTC", 8 PC14-OSC32_IN (io) "PC14-OSC32_IN/PC14/OSC32_IN", 9 PC15-OSC32_OUT (io) "PC15-OSC32_OUT/PC15/OSC32_OUT", 12 OSC_IN (in), 13 OSC_OUT, 14 NRST (io), 15 PC0 (io) "PC0/ADC12_IN10", 16 PC1 (io) "PC1/ADC12_IN11/ETH_MII_MDC/ETH_RMII_MDC", 17 PC2 (io) "PC2/ADC12_IN12/ETH_MII_TXD2", 18 PC3 (io) "PC3/ADC12_IN13/ETH_MII_TX_CLK", 23 PA0-WKUP (io) "PA0-WKUP/PA0/WKUP/USART2_CTS/ADC12_IN0/TIM2_CH1_ETR/TIM5_CH1/ETH_MII_CRS_WKUP", 24 PA1 (io) "PA1/USART2_RTS/ADC12_IN1/TIM5_CH2/TIM2_CH2/ETH_MII_RX_CLK/ETH_RMII_REF_CLK", 25 PA2 (io) "PA2/USART2_TX/TIM5_CH3/ADC12_IN2/TIM2_CH3/ETH_MII_MDIO/ETH_RMII_MDIO", 26 PA3 (io) "PA3/USART2_RX/TIM5_CH4/ADC12_IN3/TIM2_CH4/ETH_MII_COL", 29 PA4 (io) "PA4/SPI1_NSS/DAC_OUT1/USART2_CK/ADC12_IN4/SPI3_NSS/I2S3_WS", 30 PA5 (io) "PA5/SPI1_SCK/DAC_OUT2/ADC12_IN5", 31 PA6 (io) "PA6/SPI1_MISO/ADC12_IN6/TIM3_CH1/TIM1_BKIN", 32 PA7 (io) "PA7/SPI1_MOSI/ADC12_IN7/TIM3_CH2/ETH_MII_RX_DV/ETH_RMII_CRS_DV/TIM1_CH1N", 33 PC4 (io) "PC4/ADC12_IN14/ETH_MII_RXD0/ETH_RMII_RXD0", 34 PC5 (io) "PC5/ADC12_IN15/ETH_MII_RXD1/ETH_RMII_RXD1", 35 PB0 (io) "PB0/ADC12_IN8/TIM3_CH3/ETH_MII_RXD2/TIM1_CH2N", 36 PB1 (io) "PB1/ADC12_IN9/TIM3_CH4/ETH_MII_RXD3/TIM1_CH3N", 37 PB2 (io) "PB2/BOOT1", 38 PE7 (io) "PE7/TIM1_ETR", 39 PE8 (io) "PE8/TIM1_CH1N", 40 PE9 (io) "PE9/TIM1_CH1", 41 PE10 (io) "PE10/TIM1_CH2N", 42 PE11 (io) "PE11/TIM1_CH2", 43 PE12 (io) "PE12/TIM1_CH3N", 44 PE13 (io) "PE13/TIM1_CH3", 45 PE14 (io) "PE14/TIM1_CH4", 46 PE15 (io) "PE15/TIM1_BKIN", 47 PB10 (io) "PB10/I2C2_SCL/USART3_TX/ETH_MII_RX_ER/TIM2_CH3", 48 PB11 (io) "PB11/I2C2_SDA/USART3_RX/ETH_MII_TX_EN/ETH_RMII_TX_EN/TIM2_CH4", 51 PB12 (io) "PB12/SPI2_NSS/I2S2_WS/I2C2_SMBA/USART3_CK/TIM1_BKIN/CAN2_RX/ETH_MII_TXD0/ETH_RMII_TXD0", 52 PB13 (io) "PB13/SPI2_SCK/I2S2_CK/USART3_CTS/TIM1_CH1N/CAN2_TX/ETH_MII_TXD1/ETH_RMII_TXD1", 53 PB14 (io) "PB14/SPI2_MISO/TIM1_CH2N/USART3_RTS", 54 PB15 (io) "PB15/SPI2_MOSI/I2S2_SD/TIM1_CH3N", 55 PD8 (io) "PD8/USART3_TX/ETH_MII_RX_DV/ETH_RMII_CRS_DV", 56 PD9 (io) "PD9/USART3_RX/ETH_MII_RXD0/ETH_RMII_RXD0", 57 PD10 (io) "PD10/USART3_CK/ETH_MII_RXD1/ETH_RMII_RXD1", 58 PD11 (io) "PD11/USART3_CTS/ETH_MII_RXD2", 59 PD12 (io) "PD12/TIM4_CH1/USART3_RTS/ETH_MII_RXD3", 60 PD13 (io) "PD13/TIM4_CH2", 61 PD14 (io) "PD14/TIM4_CH3", 62 PD15 (io) "PD15/TIM4_CH4", 63 PC6 (io) "PC6/I2S2_MCK/TIM3_CH1", 64 PC7 (io) "PC7/I2S3_MCK/TIM3_CH2", 65 PC8 (io) "PC8/TIM3_CH3", 66 PC9 (io) "PC9/TIM3_CH4", 67 PA8 (io) "PA8/USART1_CK/OTG_FS_SOF/TIM1_CH1/MCO", 68 PA9 (io) "PA9/USART1_TX/TIM1_CH2/OTG_FS_VBUS", 69 PA10 (io) "PA10/USART1_RX/TIM1_CH3/OTG_FS_ID", 70 PA11 (io) "PA11/USART1_CTS/CAN1_RX/TIM1_CH4/OTG_FS_DM", 71 PA12 (io) "PA12/USART1_RTS/OTG_FS_DP/CAN1_TX/TIM1_ETR", 72 PA13 (io) "PA13/JTMS-SWDIO", 73 NC, 76 PA14 (io) "PA14/JTCK-SWCLK", 77 PA15 (io) "PA15/JTDI/SPI3_NSS/I2S3_WS/TIM2_CH1_ETR/SPI1_NSS", 78 PC10 (io) "PC10/UART4_TX/USART3_TX/SPI3_SCK/I2S3_CK", 79 PC11 (io) "PC11/UART4_RX/USART3_RX/SPI3_MISO", 80 PC12 (io) "PC12/UART5_TX/USART3_CK/SPI3_MOSI/I2S3_SD", 81 PD0 (io) "PD0/OSC_IN/CAN1_RX", 82 PD1 (io) "PD1/OSC_OUT/CAN1_TX", 83 PD2 (io) "PD2/TIM3_ETR/UART5_RX", 84 PD3 (io) "PD3/USART2_CTS", 85 PD4 (io) "PD4/USART2_RTS", 86 PD5 (io) "PD5/USART2_TX", 87 PD6 (io) "PD6/USART2_RX", 88 PD7 (io) "PD7/USART2_CK", 89 PB3 (io) "PB3/JTDO/SPI3_SCK/I2S3_CK/TRACESWO/TIM2_CH2/SPI1_SCK", 90 PB4 (io) "PB4/NJTRST/SPI3_MISO/TIM3_CH1/SPI1_MISO", 91 PB5 (io) "PB5/I2C1_SMBA/SPI3_MOSI/ETH_MII_PPS_OUT/I2S3_SD/ETH_RMII_PPS_OUT/TIM3_CH2/SPI1_MOSI/CAN2_RX", 92 PB6 (io) "PB6/I2C1_SCL/TIM4_CH1/USART1_TX/CAN2_TX", 93 PB7 (io) "PB7/I2C1_SDA/TIM4_CH2/USART1_RX", 94 BOOT0 (in), 95 PB8 (io) "PB8/TIM4_CH3/ETH_MII_TXD3/I2C1_SCL/CAN1_RX", 96 PB9 (io) "PB9/TIM4_CH4/I2C1_SDA/CAN1_TX", 97 PE0 (io) "PE0/TIM4_ETR", 98 PE1 (io)
part B pins: 6 VBAT (power), 10 VSS_5 (power), 11 VDD_5 (power), 19 VSSA (power), 20 VREF- (power), 21 VREF+ (power), 22 VDDA (power), 27 VSS_4 (power), 28 VDD_4 (power), 49 VSS_1 (power), 50 VDD_1 (power), 74 VSS_2 (power), 75 VDD_2 (power), 99 VSS_3 (power), 100 VDD_3 (power)

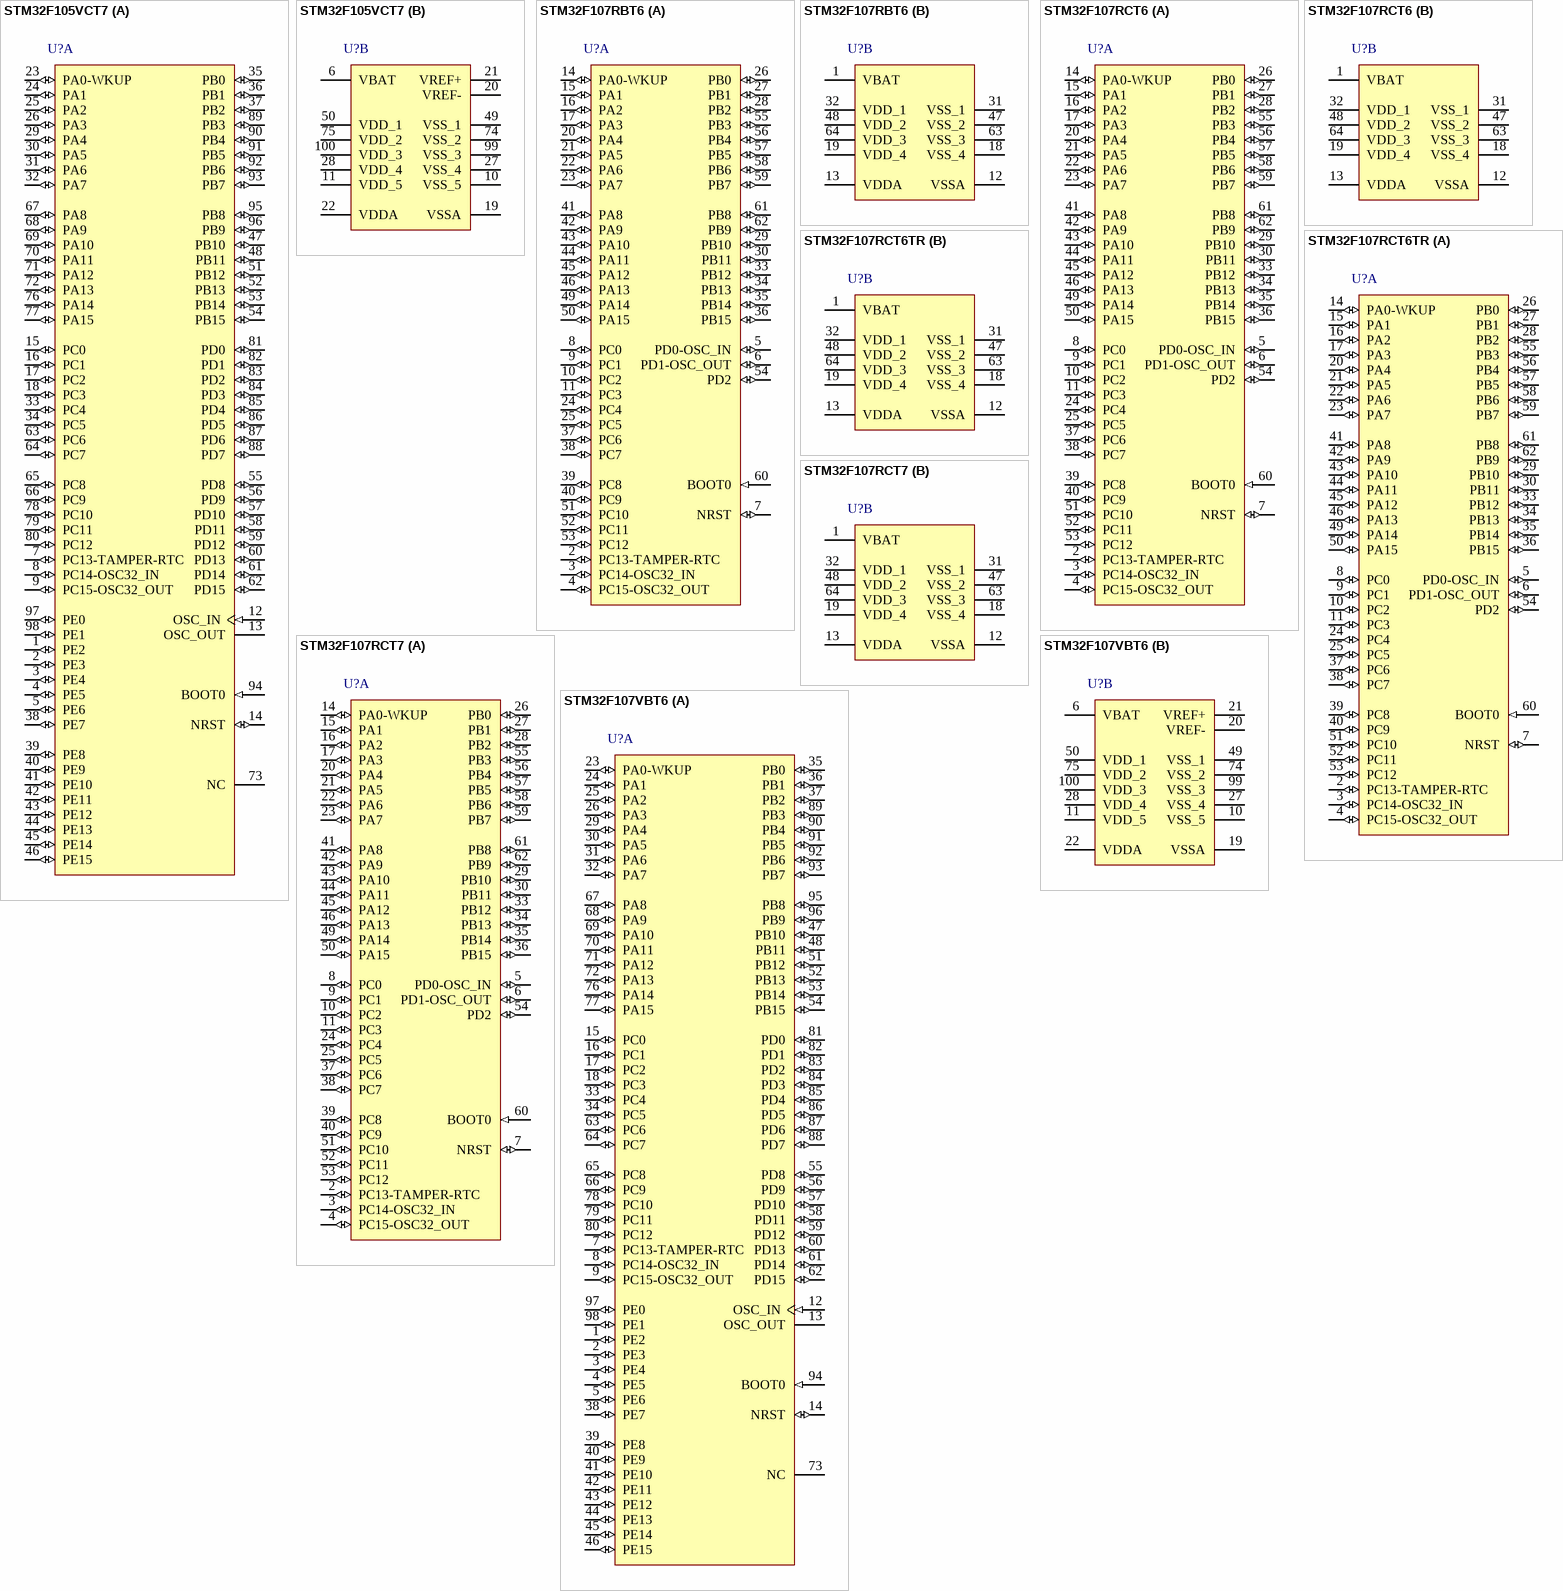
[diagram p41: symbols STM32F105VCT7 to STM32F107VBT6]

## STM32F105VCT7
designator U?
ARM Cortex-M3 32-bit MCU, 256 KB Flash, 64 KB Internal RAM, 80 I/Os, 100-pin LQFP, -40 to 105 degC, Tray
footprint STM-LQFP100_N (Thin QFP, 100-Leads, Body 14x14mm, Pitch 0.5mm, IPC Medium Density)
footprint STM-LQFP100_L (Thin QFP, 100-Leads, Body 14x14mm, Pitch 0.5mm, IPC High Density)
footprint STM-LQFP100_M (Thin QFP, 100-Leads, Body 14x14mm, Pitch 0.5mm, IPC Low Density)
footprint STM-LQFP100_V (Thin QFP, 100-Leads, Body 14x14mm, Pitch 0.5mm, ST Recommended)
part A pins: 1 PE2 (io) "PE2/TRACECK", 2 PE3 (io) "PE3/TRACED0", 3 PE4 (io) "PE4/TRACED1", 4 PE5 (io) "PE5/TRACED2", 5 PE6 (io) "PE6/TRACED3", 7 PC13-TAMPER-RTC (io) "PC13-TAMPER-RTC/PC13/TAMPER-RTC", 8 PC14-OSC32_IN (io) "PC14-OSC32_IN/PC14/OSC32_IN", 9 PC15-OSC32_OUT (io) "PC15-OSC32_OUT/PC15/OSC32_OUT", 12 OSC_IN (in), 13 OSC_OUT, 14 NRST (io), 15 PC0 (io) "PC0/ADC12_IN10", 16 PC1 (io) "PC1/ADC12_IN11/ETH_MII_MDC/ETH_RMII_MDC", 17 PC2 (io) "PC2/ADC12_IN12/ETH_MII_TXD2", 18 PC3 (io) "PC3/ADC12_IN13/ETH_MII_TX_CLK", 23 PA0-WKUP (io) "PA0-WKUP/PA0/WKUP/USART2_CTS/ADC12_IN0/TIM2_CH1_ETR/TIM5_CH1/ETH_MII_CRS_WKUP", 24 PA1 (io) "PA1/USART2_RTS/ADC12_IN1/TIM5_CH2/TIM2_CH2/ETH_MII_RX_CLK/ETH_RMII_REF_CLK", 25 PA2 (io) "PA2/USART2_TX/TIM5_CH3/ADC12_IN2/TIM2_CH3/ETH_MII_MDIO/ETH_RMII_MDIO", 26 PA3 (io) "PA3/USART2_RX/TIM5_CH4/ADC12_IN3/TIM2_CH4/ETH_MII_COL", 29 PA4 (io) "PA4/SPI1_NSS/DAC_OUT1/USART2_CK/ADC12_IN4/SPI3_NSS/I2S3_WS", 30 PA5 (io) "PA5/SPI1_SCK/DAC_OUT2/ADC12_IN5", 31 PA6 (io) "PA6/SPI1_MISO/ADC12_IN6/TIM3_CH1/TIM1_BKIN", 32 PA7 (io) "PA7/SPI1_MOSI/ADC12_IN7/TIM3_CH2/ETH_MII_RX_DV/ETH_RMII_CRS_DV/TIM1_CH1N", 33 PC4 (io) "PC4/ADC12_IN14/ETH_MII_RXD0/ETH_RMII_RXD0", 34 PC5 (io) "PC5/ADC12_IN15/ETH_MII_RXD1/ETH_RMII_RXD1", 35 PB0 (io) "PB0/ADC12_IN8/TIM3_CH3/ETH_MII_RXD2/TIM1_CH2N", 36 PB1 (io) "PB1/ADC12_IN9/TIM3_CH4/ETH_MII_RXD3/TIM1_CH3N", 37 PB2 (io) "PB2/BOOT1", 38 PE7 (io) "PE7/TIM1_ETR", 39 PE8 (io) "PE8/TIM1_CH1N", 40 PE9 (io) "PE9/TIM1_CH1", 41 PE10 (io) "PE10/TIM1_CH2N", 42 PE11 (io) "PE11/TIM1_CH2", 43 PE12 (io) "PE12/TIM1_CH3N", 44 PE13 (io) "PE13/TIM1_CH3", 45 PE14 (io) "PE14/TIM1_CH4", 46 PE15 (io) "PE15/TIM1_BKIN", 47 PB10 (io) "PB10/I2C2_SCL/USART3_TX/ETH_MII_RX_ER/TIM2_CH3", 48 PB11 (io) "PB11/I2C2_SDA/USART3_RX/ETH_MII_TX_EN/ETH_RMII_TX_EN/TIM2_CH4", 51 PB12 (io) "PB12/SPI2_NSS/I2S2_WS/I2C2_SMBA/USART3_CK/TIM1_BKIN/CAN2_RX/ETH_MII_TXD0/ETH_RMII_TXD0", 52 PB13 (io) "PB13/SPI2_SCK/I2S2_CK/USART3_CTS/TIM1_CH1N/CAN2_TX/ETH_MII_TXD1/ETH_RMII_TXD1", 53 PB14 (io) "PB14/SPI2_MISO/TIM1_CH2N/USART3_RTS", 54 PB15 (io) "PB15/SPI2_MOSI/I2S2_SD/TIM1_CH3N", 55 PD8 (io) "PD8/USART3_TX/ETH_MII_RX_DV/ETH_RMII_CRS_DV", 56 PD9 (io) "PD9/USART3_RX/ETH_MII_RXD0/ETH_RMII_RXD0", 57 PD10 (io) "PD10/USART3_CK/ETH_MII_RXD1/ETH_RMII_RXD1", 58 PD11 (io) "PD11/USART3_CTS/ETH_MII_RXD2", 59 PD12 (io) "PD12/TIM4_CH1/USART3_RTS/ETH_MII_RXD3", 60 PD13 (io) "PD13/TIM4_CH2", 61 PD14 (io) "PD14/TIM4_CH3", 62 PD15 (io) "PD15/TIM4_CH4", 63 PC6 (io) "PC6/I2S2_MCK/TIM3_CH1", 64 PC7 (io) "PC7/I2S3_MCK/TIM3_CH2", 65 PC8 (io) "PC8/TIM3_CH3", 66 PC9 (io) "PC9/TIM3_CH4", 67 PA8 (io) "PA8/USART1_CK/OTG_FS_SOF/TIM1_CH1/MCO", 68 PA9 (io) "PA9/USART1_TX/TIM1_CH2/OTG_FS_VBUS", 69 PA10 (io) "PA10/USART1_RX/TIM1_CH3/OTG_FS_ID", 70 PA11 (io) "PA11/USART1_CTS/CAN1_RX/TIM1_CH4/OTG_FS_DM", 71 PA12 (io) "PA12/USART1_RTS/OTG_FS_DP/CAN1_TX/TIM1_ETR", 72 PA13 (io) "PA13/JTMS-SWDIO", 73 NC, 76 PA14 (io) "PA14/JTCK-SWCLK", 77 PA15 (io) "PA15/JTDI/SPI3_NSS/I2S3_WS/TIM2_CH1_ETR/SPI1_NSS", 78 PC10 (io) "PC10/UART4_TX/USART3_TX/SPI3_SCK/I2S3_CK", 79 PC11 (io) "PC11/UART4_RX/USART3_RX/SPI3_MISO", 80 PC12 (io) "PC12/UART5_TX/USART3_CK/SPI3_MOSI/I2S3_SD", 81 PD0 (io) "PD0/OSC_IN/CAN1_RX", 82 PD1 (io) "PD1/OSC_OUT/CAN1_TX", 83 PD2 (io) "PD2/TIM3_ETR/UART5_RX", 84 PD3 (io) "PD3/USART2_CTS", 85 PD4 (io) "PD4/USART2_RTS", 86 PD5 (io) "PD5/USART2_TX", 87 PD6 (io) "PD6/USART2_RX", 88 PD7 (io) "PD7/USART2_CK", 89 PB3 (io) "PB3/JTDO/SPI3_SCK/I2S3_CK/TRACESWO/TIM2_CH2/SPI1_SCK", 90 PB4 (io) "PB4/NJTRST/SPI3_MISO/TIM3_CH1/SPI1_MISO", 91 PB5 (io) "PB5/I2C1_SMBA/SPI3_MOSI/ETH_MII_PPS_OUT/I2S3_SD/ETH_RMII_PPS_OUT/TIM3_CH2/SPI1_MOSI/CAN2_RX", 92 PB6 (io) "PB6/I2C1_SCL/TIM4_CH1/USART1_TX/CAN2_TX", 93 PB7 (io) "PB7/I2C1_SDA/TIM4_CH2/USART1_RX", 94 BOOT0 (in), 95 PB8 (io) "PB8/TIM4_CH3/ETH_MII_TXD3/I2C1_SCL/CAN1_RX", 96 PB9 (io) "PB9/TIM4_CH4/I2C1_SDA/CAN1_TX", 97 PE0 (io) "PE0/TIM4_ETR", 98 PE1 (io)
part B pins: 6 VBAT (power), 10 VSS_5 (power), 11 VDD_5 (power), 19 VSSA (power), 20 VREF- (power), 21 VREF+ (power), 22 VDDA (power), 27 VSS_4 (power), 28 VDD_4 (power), 49 VSS_1 (power), 50 VDD_1 (power), 74 VSS_2 (power), 75 VDD_2 (power), 99 VSS_3 (power), 100 VDD_3 (power)

## STM32F107RBT6
designator U?
ARM Cortex-M3 32-bit MCU, 128 KB Flash, 64 KB Internal RAM, 51 I/Os, 64-pin LQFP, -40 to 85 degC, Tray
footprint STM-LQFP64_N (Thin QFP, 64-Leads, Body 10x10mm, Pitch 0.5mm, IPC Medium Density)
footprint STM-LQFP64_L (Thin QFP, 64-Leads, Body 10x10mm, Pitch 0.5mm, IPC High Density)
footprint STM-LQFP64_M (Thin QFP, 64-Leads, Body 10x10mm, Pitch 0.5mm, IPC Low Density)
footprint STM-LQFP64_V (Thin QFP, 64-Leads, Body 10x10mm, Pitch 0.5mm, ST Recommended)
part A pins: 2 PC13-TAMPER-RTC (io) "PC13-TAMPER-RTC/PC13/TAMPER-RTC", 3 PC14-OSC32_IN (io) "PC14-OSC32_IN/PC14/OSC32_IN", 4 PC15-OSC32_OUT (io) "PC15-OSC32_OUT/PC15/OSC32_OUT", 5 PD0-OSC_IN (io) "PD0/OSC_IN", 6 PD1-OSC_OUT (io) "PD1/OSC_OUT", 7 NRST (io), 8 PC0 (io) "PC0/ADC12_IN10", 9 PC1 (io) "PC1/ADC12_IN11/ETH_MII_MDC/ETH_RMII_MDC", 10 PC2 (io) "PC2/ADC12_IN12/ETH_MII_TXD2", 11 PC3 (io) "PC3/ADC12_IN13/ETH_MII_TX_CLK", 14 PA0-WKUP (io) "PA0-WKUP/PA0/WKUP/USART2_CTS/ADC12_IN0/TIM2_CH1_ETR/TIM5_CH1/ETH_MII_CRS_WKUP", 15 PA1 (io) "PA1/USART2_RTS/ADC12_IN1/TIM5_CH2/TIM2_CH2/ETH_MII_RX_CLK/ETH_RMII_REF_CLK", 16 PA2 (io) "PA2/USART2_TX/TIM5_CH3/ADC12_IN2/TIM2_CH3/ETH_MII_MDIO/ETH_RMII_MDIO", 17 PA3 (io) "PA3/USART2_RX/TIM5_CH4/ADC12_IN3/TIM2_CH4/ETH_MII_COL", 20 PA4 (io) "PA4/SPI1_NSS/DAC_OUT1/USART2_CK/ADC12_IN4/SPI3_NSS/I2S3_WS", 21 PA5 (io) "PA5/SPI1_SCK/DAC_OUT2/ADC12_IN5", 22 PA6 (io) "PA6/SPI1_MISO/ADC12_IN6/TIM3_CH1/TIM1_BKIN", 23 PA7 (io) "PA7/SPI1_MOSI/ADC12_IN7/TIM3_CH2/ETH_MII_RX_DV/ETH_RMII_CRS_DV/TIM1_CH1N", 24 PC4 (io) "PC4/ADC12_IN14/ETH_MII_RXD0/ETH_RMII_RXD0", 25 PC5 (io) "PC5/ADC12_IN15/ETH_MII_RXD1/ETH_RMII_RXD1", 26 PB0 (io) "PB0/ADC12_IN8/TIM3_CH3/ETH_MII_RXD2/TIM1_CH2N", 27 PB1 (io) "PB1/ADC12_IN9/TIM3_CH4/ETH_MII_RXD3/TIM1_CH3N", 28 PB2 (io) "PB2/BOOT1", 29 PB10 (io) "PB10/I2C2_SCL/USART3_TX/ETH_MII_RX_ER/TIM2_CH3", 30 PB11 (io) "PB11/I2C2_SDA/USART3_RX/ETH_MII_TX_EN/ETH_RMII_TX_EN/TIM2_CH4", 33 PB12 (io) "PB12/SPI2_NSS/I2S2_WS/I2C2_SMBA/USART3_CK/TIM1_BKIN/CAN2_RX/ETH_MII_TXD0/ETH_RMII_TXD0", 34 PB13 (io) "PB13/SPI2_SCK/I2S2_CK/USART3_CTS/TIM1_CH1N/CAN2_TX/ETH_MII_TXD1/ETH_RMII_TXD1", 35 PB14 (io) "PB14/SPI2_MISO/TIM1_CH2N/USART3_RTS", 36 PB15 (io) "PB15/SPI2_MOSI/I2S2_SD/TIM1_CH3N", 37 PC6 (io) "PC6/I2S2_MCK/TIM3_CH1", 38 PC7 (io) "PC7/I2S3_MCK/TIM3_CH2", 39 PC8 (io) "PC8/TIM3_CH3", 40 PC9 (io) "PC9/TIM3_CH4", 41 PA8 (io) "PA8/USART1_CK/OTG_FS_SOF/TIM1_CH1/MCO", 42 PA9 (io) "PA9/USART1_TX/TIM1_CH2/OTG_FS_VBUS", 43 PA10 (io) "PA10/USART1_RX/TIM1_CH3/OTG_FS_ID", 44 PA11 (io) "PA11/USART1_CTS/CAN1_RX/TIM1_CH4/OTG_FS_DM", 45 PA12 (io) "PA12/USART1_RTS/OTG_FS_DP/CAN1_TX/TIM1_ETR", 46 PA13 (io) "PA13/JTMS-SWDIO", 49 PA14 (io) "PA14/JTCK-SWCLK", 50 PA15 (io) "PA15/JTDI/SPI3_NSS/I2S3_WS/TIM2_CH1_ETR/SPI1_NSS", 51 PC10 (io) "PC10/UART4_TX/USART3_TX/SPI3_SCK/I2S3_CK", 52 PC11 (io) "PC11/UART4_RX/USART3_RX/SPI3_MISO", 53 PC12 (io) "PC12/UART5_TX/USART3_CK/SPI3_MOSI/I2S3_SD", 54 PD2 (io) "PD2/TIM3_ETR/UART5_RX", 55 PB3 (io) "PB3/JTDO/SPI3_SCK/I2S3_CK/TRACESWO/TIM2_CH2/SPI1_SCK", 56 PB4 (io) "PB4/NJTRST/SPI3_MISO/TIM3_CH1/SPI1_MISO", 57 PB5 (io) "PB5/I2C1_SMBA/SPI3_MOSI/ETH_MII_PPS_OUT/I2S3_SD/ETH_RMII_PPS_OUT/TIM3_CH2/SPI1_MOSI/CAN2_RX", 58 PB6 (io) "PB6/I2C1_SCL/TIM4_CH1/USART1_TX/CAN2_TX", 59 PB7 (io) "PB7/I2C1_SDA/TIM4_CH2/USART1_RX", 60 BOOT0 (in), 61 PB8 (io) "PB8/TIM4_CH3/ETH_MII_TXD3/I2C1_SCL/CAN1_RX", 62 PB9 (io) "PB9/TIM4_CH4/I2C1_SDA/CAN1_TX"
part B pins: 1 VBAT (power), 12 VSSA (power), 13 VDDA (power), 18 VSS_4 (power), 19 VDD_4 (power), 31 VSS_1 (power), 32 VDD_1 (power), 47 VSS_2 (power), 48 VDD_2 (power), 63 VSS_3 (power), 64 VDD_3 (power)

## STM32F107RCT6
designator U?
ARM Cortex-M3 32-bit MCU, 256 KB Flash, 64 KB Internal RAM, 51 I/Os, 64-pin LQFP, -40 to 85 degC, Tray
footprint STM-LQFP64_N (Thin QFP, 64-Leads, Body 10x10mm, Pitch 0.5mm, IPC Medium Density)
footprint STM-LQFP64_L (Thin QFP, 64-Leads, Body 10x10mm, Pitch 0.5mm, IPC High Density)
footprint STM-LQFP64_M (Thin QFP, 64-Leads, Body 10x10mm, Pitch 0.5mm, IPC Low Density)
footprint STM-LQFP64_V (Thin QFP, 64-Leads, Body 10x10mm, Pitch 0.5mm, ST Recommended)
part A pins: 2 PC13-TAMPER-RTC (io) "PC13-TAMPER-RTC/PC13/TAMPER-RTC", 3 PC14-OSC32_IN (io) "PC14-OSC32_IN/PC14/OSC32_IN", 4 PC15-OSC32_OUT (io) "PC15-OSC32_OUT/PC15/OSC32_OUT", 5 PD0-OSC_IN (io) "PD0/OSC_IN", 6 PD1-OSC_OUT (io) "PD1/OSC_OUT", 7 NRST (io), 8 PC0 (io) "PC0/ADC12_IN10", 9 PC1 (io) "PC1/ADC12_IN11/ETH_MII_MDC/ETH_RMII_MDC", 10 PC2 (io) "PC2/ADC12_IN12/ETH_MII_TXD2", 11 PC3 (io) "PC3/ADC12_IN13/ETH_MII_TX_CLK", 14 PA0-WKUP (io) "PA0-WKUP/PA0/WKUP/USART2_CTS/ADC12_IN0/TIM2_CH1_ETR/TIM5_CH1/ETH_MII_CRS_WKUP", 15 PA1 (io) "PA1/USART2_RTS/ADC12_IN1/TIM5_CH2/TIM2_CH2/ETH_MII_RX_CLK/ETH_RMII_REF_CLK", 16 PA2 (io) "PA2/USART2_TX/TIM5_CH3/ADC12_IN2/TIM2_CH3/ETH_MII_MDIO/ETH_RMII_MDIO", 17 PA3 (io) "PA3/USART2_RX/TIM5_CH4/ADC12_IN3/TIM2_CH4/ETH_MII_COL", 20 PA4 (io) "PA4/SPI1_NSS/DAC_OUT1/USART2_CK/ADC12_IN4/SPI3_NSS/I2S3_WS", 21 PA5 (io) "PA5/SPI1_SCK/DAC_OUT2/ADC12_IN5", 22 PA6 (io) "PA6/SPI1_MISO/ADC12_IN6/TIM3_CH1/TIM1_BKIN", 23 PA7 (io) "PA7/SPI1_MOSI/ADC12_IN7/TIM3_CH2/ETH_MII_RX_DV/ETH_RMII_CRS_DV/TIM1_CH1N", 24 PC4 (io) "PC4/ADC12_IN14/ETH_MII_RXD0/ETH_RMII_RXD0", 25 PC5 (io) "PC5/ADC12_IN15/ETH_MII_RXD1/ETH_RMII_RXD1", 26 PB0 (io) "PB0/ADC12_IN8/TIM3_CH3/ETH_MII_RXD2/TIM1_CH2N", 27 PB1 (io) "PB1/ADC12_IN9/TIM3_CH4/ETH_MII_RXD3/TIM1_CH3N", 28 PB2 (io) "PB2/BOOT1", 29 PB10 (io) "PB10/I2C2_SCL/USART3_TX/ETH_MII_RX_ER/TIM2_CH3", 30 PB11 (io) "PB11/I2C2_SDA/USART3_RX/ETH_MII_TX_EN/ETH_RMII_TX_EN/TIM2_CH4", 33 PB12 (io) "PB12/SPI2_NSS/I2S2_WS/I2C2_SMBA/USART3_CK/TIM1_BKIN/CAN2_RX/ETH_MII_TXD0/ETH_RMII_TXD0", 34 PB13 (io) "PB13/SPI2_SCK/I2S2_CK/USART3_CTS/TIM1_CH1N/CAN2_TX/ETH_MII_TXD1/ETH_RMII_TXD1", 35 PB14 (io) "PB14/SPI2_MISO/TIM1_CH2N/USART3_RTS", 36 PB15 (io) "PB15/SPI2_MOSI/I2S2_SD/TIM1_CH3N", 37 PC6 (io) "PC6/I2S2_MCK/TIM3_CH1", 38 PC7 (io) "PC7/I2S3_MCK/TIM3_CH2", 39 PC8 (io) "PC8/TIM3_CH3", 40 PC9 (io) "PC9/TIM3_CH4", 41 PA8 (io) "PA8/USART1_CK/OTG_FS_SOF/TIM1_CH1/MCO", 42 PA9 (io) "PA9/USART1_TX/TIM1_CH2/OTG_FS_VBUS", 43 PA10 (io) "PA10/USART1_RX/TIM1_CH3/OTG_FS_ID", 44 PA11 (io) "PA11/USART1_CTS/CAN1_RX/TIM1_CH4/OTG_FS_DM", 45 PA12 (io) "PA12/USART1_RTS/OTG_FS_DP/CAN1_TX/TIM1_ETR", 46 PA13 (io) "PA13/JTMS-SWDIO", 49 PA14 (io) "PA14/JTCK-SWCLK", 50 PA15 (io) "PA15/JTDI/SPI3_NSS/I2S3_WS/TIM2_CH1_ETR/SPI1_NSS", 51 PC10 (io) "PC10/UART4_TX/USART3_TX/SPI3_SCK/I2S3_CK", 52 PC11 (io) "PC11/UART4_RX/USART3_RX/SPI3_MISO", 53 PC12 (io) "PC12/UART5_TX/USART3_CK/SPI3_MOSI/I2S3_SD", 54 PD2 (io) "PD2/TIM3_ETR/UART5_RX", 55 PB3 (io) "PB3/JTDO/SPI3_SCK/I2S3_CK/TRACESWO/TIM2_CH2/SPI1_SCK", 56 PB4 (io) "PB4/NJTRST/SPI3_MISO/TIM3_CH1/SPI1_MISO", 57 PB5 (io) "PB5/I2C1_SMBA/SPI3_MOSI/ETH_MII_PPS_OUT/I2S3_SD/ETH_RMII_PPS_OUT/TIM3_CH2/SPI1_MOSI/CAN2_RX", 58 PB6 (io) "PB6/I2C1_SCL/TIM4_CH1/USART1_TX/CAN2_TX", 59 PB7 (io) "PB7/I2C1_SDA/TIM4_CH2/USART1_RX", 60 BOOT0 (in), 61 PB8 (io) "PB8/TIM4_CH3/ETH_MII_TXD3/I2C1_SCL/CAN1_RX", 62 PB9 (io) "PB9/TIM4_CH4/I2C1_SDA/CAN1_TX"
part B pins: 1 VBAT (power), 12 VSSA (power), 13 VDDA (power), 18 VSS_4 (power), 19 VDD_4 (power), 31 VSS_1 (power), 32 VDD_1 (power), 47 VSS_2 (power), 48 VDD_2 (power), 63 VSS_3 (power), 64 VDD_3 (power)

## STM32F107RCT6TR
designator U?
ARM Cortex-M3 32-bit MCU, 256 KB Flash, 64 KB Internal RAM, 51 I/Os, 64-pin LQFP, -40 to 85 degC, Tape and Reel
footprint STM-LQFP64_N (Thin QFP, 64-Leads, Body 10x10mm, Pitch 0.5mm, IPC Medium Density)
footprint STM-LQFP64_L (Thin QFP, 64-Leads, Body 10x10mm, Pitch 0.5mm, IPC High Density)
footprint STM-LQFP64_M (Thin QFP, 64-Leads, Body 10x10mm, Pitch 0.5mm, IPC Low Density)
footprint STM-LQFP64_V (Thin QFP, 64-Leads, Body 10x10mm, Pitch 0.5mm, ST Recommended)
part A pins: 2 PC13-TAMPER-RTC (io) "PC13-TAMPER-RTC/PC13/TAMPER-RTC", 3 PC14-OSC32_IN (io) "PC14-OSC32_IN/PC14/OSC32_IN", 4 PC15-OSC32_OUT (io) "PC15-OSC32_OUT/PC15/OSC32_OUT", 5 PD0-OSC_IN (io) "PD0/OSC_IN", 6 PD1-OSC_OUT (io) "PD1/OSC_OUT", 7 NRST (io), 8 PC0 (io) "PC0/ADC12_IN10", 9 PC1 (io) "PC1/ADC12_IN11/ETH_MII_MDC/ETH_RMII_MDC", 10 PC2 (io) "PC2/ADC12_IN12/ETH_MII_TXD2", 11 PC3 (io) "PC3/ADC12_IN13/ETH_MII_TX_CLK", 14 PA0-WKUP (io) "PA0-WKUP/PA0/WKUP/USART2_CTS/ADC12_IN0/TIM2_CH1_ETR/TIM5_CH1/ETH_MII_CRS_WKUP", 15 PA1 (io) "PA1/USART2_RTS/ADC12_IN1/TIM5_CH2/TIM2_CH2/ETH_MII_RX_CLK/ETH_RMII_REF_CLK", 16 PA2 (io) "PA2/USART2_TX/TIM5_CH3/ADC12_IN2/TIM2_CH3/ETH_MII_MDIO/ETH_RMII_MDIO", 17 PA3 (io) "PA3/USART2_RX/TIM5_CH4/ADC12_IN3/TIM2_CH4/ETH_MII_COL", 20 PA4 (io) "PA4/SPI1_NSS/DAC_OUT1/USART2_CK/ADC12_IN4/SPI3_NSS/I2S3_WS", 21 PA5 (io) "PA5/SPI1_SCK/DAC_OUT2/ADC12_IN5", 22 PA6 (io) "PA6/SPI1_MISO/ADC12_IN6/TIM3_CH1/TIM1_BKIN", 23 PA7 (io) "PA7/SPI1_MOSI/ADC12_IN7/TIM3_CH2/ETH_MII_RX_DV/ETH_RMII_CRS_DV/TIM1_CH1N", 24 PC4 (io) "PC4/ADC12_IN14/ETH_MII_RXD0/ETH_RMII_RXD0", 25 PC5 (io) "PC5/ADC12_IN15/ETH_MII_RXD1/ETH_RMII_RXD1", 26 PB0 (io) "PB0/ADC12_IN8/TIM3_CH3/ETH_MII_RXD2/TIM1_CH2N", 27 PB1 (io) "PB1/ADC12_IN9/TIM3_CH4/ETH_MII_RXD3/TIM1_CH3N", 28 PB2 (io) "PB2/BOOT1", 29 PB10 (io) "PB10/I2C2_SCL/USART3_TX/ETH_MII_RX_ER/TIM2_CH3", 30 PB11 (io) "PB11/I2C2_SDA/USART3_RX/ETH_MII_TX_EN/ETH_RMII_TX_EN/TIM2_CH4", 33 PB12 (io) "PB12/SPI2_NSS/I2S2_WS/I2C2_SMBA/USART3_CK/TIM1_BKIN/CAN2_RX/ETH_MII_TXD0/ETH_RMII_TXD0", 34 PB13 (io) "PB13/SPI2_SCK/I2S2_CK/USART3_CTS/TIM1_CH1N/CAN2_TX/ETH_MII_TXD1/ETH_RMII_TXD1", 35 PB14 (io) "PB14/SPI2_MISO/TIM1_CH2N/USART3_RTS", 36 PB15 (io) "PB15/SPI2_MOSI/I2S2_SD/TIM1_CH3N", 37 PC6 (io) "PC6/I2S2_MCK/TIM3_CH1", 38 PC7 (io) "PC7/I2S3_MCK/TIM3_CH2", 39 PC8 (io) "PC8/TIM3_CH3", 40 PC9 (io) "PC9/TIM3_CH4", 41 PA8 (io) "PA8/USART1_CK/OTG_FS_SOF/TIM1_CH1/MCO", 42 PA9 (io) "PA9/USART1_TX/TIM1_CH2/OTG_FS_VBUS", 43 PA10 (io) "PA10/USART1_RX/TIM1_CH3/OTG_FS_ID", 44 PA11 (io) "PA11/USART1_CTS/CAN1_RX/TIM1_CH4/OTG_FS_DM", 45 PA12 (io) "PA12/USART1_RTS/OTG_FS_DP/CAN1_TX/TIM1_ETR", 46 PA13 (io) "PA13/JTMS-SWDIO", 49 PA14 (io) "PA14/JTCK-SWCLK", 50 PA15 (io) "PA15/JTDI/SPI3_NSS/I2S3_WS/TIM2_CH1_ETR/SPI1_NSS", 51 PC10 (io) "PC10/UART4_TX/USART3_TX/SPI3_SCK/I2S3_CK", 52 PC11 (io) "PC11/UART4_RX/USART3_RX/SPI3_MISO", 53 PC12 (io) "PC12/UART5_TX/USART3_CK/SPI3_MOSI/I2S3_SD", 54 PD2 (io) "PD2/TIM3_ETR/UART5_RX", 55 PB3 (io) "PB3/JTDO/SPI3_SCK/I2S3_CK/TRACESWO/TIM2_CH2/SPI1_SCK", 56 PB4 (io) "PB4/NJTRST/SPI3_MISO/TIM3_CH1/SPI1_MISO", 57 PB5 (io) "PB5/I2C1_SMBA/SPI3_MOSI/ETH_MII_PPS_OUT/I2S3_SD/ETH_RMII_PPS_OUT/TIM3_CH2/SPI1_MOSI/CAN2_RX", 58 PB6 (io) "PB6/I2C1_SCL/TIM4_CH1/USART1_TX/CAN2_TX", 59 PB7 (io) "PB7/I2C1_SDA/TIM4_CH2/USART1_RX", 60 BOOT0 (in), 61 PB8 (io) "PB8/TIM4_CH3/ETH_MII_TXD3/I2C1_SCL/CAN1_RX", 62 PB9 (io) "PB9/TIM4_CH4/I2C1_SDA/CAN1_TX"
part B pins: 1 VBAT (power), 12 VSSA (power), 13 VDDA (power), 18 VSS_4 (power), 19 VDD_4 (power), 31 VSS_1 (power), 32 VDD_1 (power), 47 VSS_2 (power), 48 VDD_2 (power), 63 VSS_3 (power), 64 VDD_3 (power)

## STM32F107RCT7
designator U?
ARM Cortex-M3 32-bit MCU, 256 KB Flash, 64 KB Internal RAM, 51 I/Os, 64-pin LQFP, -40 to 105 degC, Tray
footprint STM-LQFP64_N (Thin QFP, 64-Leads, Body 10x10mm, Pitch 0.5mm, IPC Medium Density)
footprint STM-LQFP64_L (Thin QFP, 64-Leads, Body 10x10mm, Pitch 0.5mm, IPC High Density)
footprint STM-LQFP64_M (Thin QFP, 64-Leads, Body 10x10mm, Pitch 0.5mm, IPC Low Density)
footprint STM-LQFP64_V (Thin QFP, 64-Leads, Body 10x10mm, Pitch 0.5mm, ST Recommended)
part A pins: 2 PC13-TAMPER-RTC (io) "PC13-TAMPER-RTC/PC13/TAMPER-RTC", 3 PC14-OSC32_IN (io) "PC14-OSC32_IN/PC14/OSC32_IN", 4 PC15-OSC32_OUT (io) "PC15-OSC32_OUT/PC15/OSC32_OUT", 5 PD0-OSC_IN (io) "PD0/OSC_IN", 6 PD1-OSC_OUT (io) "PD1/OSC_OUT", 7 NRST (io), 8 PC0 (io) "PC0/ADC12_IN10", 9 PC1 (io) "PC1/ADC12_IN11/ETH_MII_MDC/ETH_RMII_MDC", 10 PC2 (io) "PC2/ADC12_IN12/ETH_MII_TXD2", 11 PC3 (io) "PC3/ADC12_IN13/ETH_MII_TX_CLK", 14 PA0-WKUP (io) "PA0-WKUP/PA0/WKUP/USART2_CTS/ADC12_IN0/TIM2_CH1_ETR/TIM5_CH1/ETH_MII_CRS_WKUP", 15 PA1 (io) "PA1/USART2_RTS/ADC12_IN1/TIM5_CH2/TIM2_CH2/ETH_MII_RX_CLK/ETH_RMII_REF_CLK", 16 PA2 (io) "PA2/USART2_TX/TIM5_CH3/ADC12_IN2/TIM2_CH3/ETH_MII_MDIO/ETH_RMII_MDIO", 17 PA3 (io) "PA3/USART2_RX/TIM5_CH4/ADC12_IN3/TIM2_CH4/ETH_MII_COL", 20 PA4 (io) "PA4/SPI1_NSS/DAC_OUT1/USART2_CK/ADC12_IN4/SPI3_NSS/I2S3_WS", 21 PA5 (io) "PA5/SPI1_SCK/DAC_OUT2/ADC12_IN5", 22 PA6 (io) "PA6/SPI1_MISO/ADC12_IN6/TIM3_CH1/TIM1_BKIN", 23 PA7 (io) "PA7/SPI1_MOSI/ADC12_IN7/TIM3_CH2/ETH_MII_RX_DV/ETH_RMII_CRS_DV/TIM1_CH1N", 24 PC4 (io) "PC4/ADC12_IN14/ETH_MII_RXD0/ETH_RMII_RXD0", 25 PC5 (io) "PC5/ADC12_IN15/ETH_MII_RXD1/ETH_RMII_RXD1", 26 PB0 (io) "PB0/ADC12_IN8/TIM3_CH3/ETH_MII_RXD2/TIM1_CH2N", 27 PB1 (io) "PB1/ADC12_IN9/TIM3_CH4/ETH_MII_RXD3/TIM1_CH3N", 28 PB2 (io) "PB2/BOOT1", 29 PB10 (io) "PB10/I2C2_SCL/USART3_TX/ETH_MII_RX_ER/TIM2_CH3", 30 PB11 (io) "PB11/I2C2_SDA/USART3_RX/ETH_MII_TX_EN/ETH_RMII_TX_EN/TIM2_CH4", 33 PB12 (io) "PB12/SPI2_NSS/I2S2_WS/I2C2_SMBA/USART3_CK/TIM1_BKIN/CAN2_RX/ETH_MII_TXD0/ETH_RMII_TXD0", 34 PB13 (io) "PB13/SPI2_SCK/I2S2_CK/USART3_CTS/TIM1_CH1N/CAN2_TX/ETH_MII_TXD1/ETH_RMII_TXD1", 35 PB14 (io) "PB14/SPI2_MISO/TIM1_CH2N/USART3_RTS", 36 PB15 (io) "PB15/SPI2_MOSI/I2S2_SD/TIM1_CH3N", 37 PC6 (io) "PC6/I2S2_MCK/TIM3_CH1", 38 PC7 (io) "PC7/I2S3_MCK/TIM3_CH2", 39 PC8 (io) "PC8/TIM3_CH3", 40 PC9 (io) "PC9/TIM3_CH4", 41 PA8 (io) "PA8/USART1_CK/OTG_FS_SOF/TIM1_CH1/MCO", 42 PA9 (io) "PA9/USART1_TX/TIM1_CH2/OTG_FS_VBUS", 43 PA10 (io) "PA10/USART1_RX/TIM1_CH3/OTG_FS_ID", 44 PA11 (io) "PA11/USART1_CTS/CAN1_RX/TIM1_CH4/OTG_FS_DM", 45 PA12 (io) "PA12/USART1_RTS/OTG_FS_DP/CAN1_TX/TIM1_ETR", 46 PA13 (io) "PA13/JTMS-SWDIO", 49 PA14 (io) "PA14/JTCK-SWCLK", 50 PA15 (io) "PA15/JTDI/SPI3_NSS/I2S3_WS/TIM2_CH1_ETR/SPI1_NSS", 51 PC10 (io) "PC10/UART4_TX/USART3_TX/SPI3_SCK/I2S3_CK", 52 PC11 (io) "PC11/UART4_RX/USART3_RX/SPI3_MISO", 53 PC12 (io) "PC12/UART5_TX/USART3_CK/SPI3_MOSI/I2S3_SD", 54 PD2 (io) "PD2/TIM3_ETR/UART5_RX", 55 PB3 (io) "PB3/JTDO/SPI3_SCK/I2S3_CK/TRACESWO/TIM2_CH2/SPI1_SCK", 56 PB4 (io) "PB4/NJTRST/SPI3_MISO/TIM3_CH1/SPI1_MISO", 57 PB5 (io) "PB5/I2C1_SMBA/SPI3_MOSI/ETH_MII_PPS_OUT/I2S3_SD/ETH_RMII_PPS_OUT/TIM3_CH2/SPI1_MOSI/CAN2_RX", 58 PB6 (io) "PB6/I2C1_SCL/TIM4_CH1/USART1_TX/CAN2_TX", 59 PB7 (io) "PB7/I2C1_SDA/TIM4_CH2/USART1_RX", 60 BOOT0 (in), 61 PB8 (io) "PB8/TIM4_CH3/ETH_MII_TXD3/I2C1_SCL/CAN1_RX", 62 PB9 (io) "PB9/TIM4_CH4/I2C1_SDA/CAN1_TX"
part B pins: 1 VBAT (power), 12 VSSA (power), 13 VDDA (power), 18 VSS_4 (power), 19 VDD_4 (power), 31 VSS_1 (power), 32 VDD_1 (power), 47 VSS_2 (power), 48 VDD_2 (power), 63 VSS_3 (power), 64 VDD_3 (power)